# Altium schematic symbol library SparkFun-IC-Microcontroller.SCHLIB: 36 symbols
Pins are listed as number, name and electrical type; pins without a type are passive.

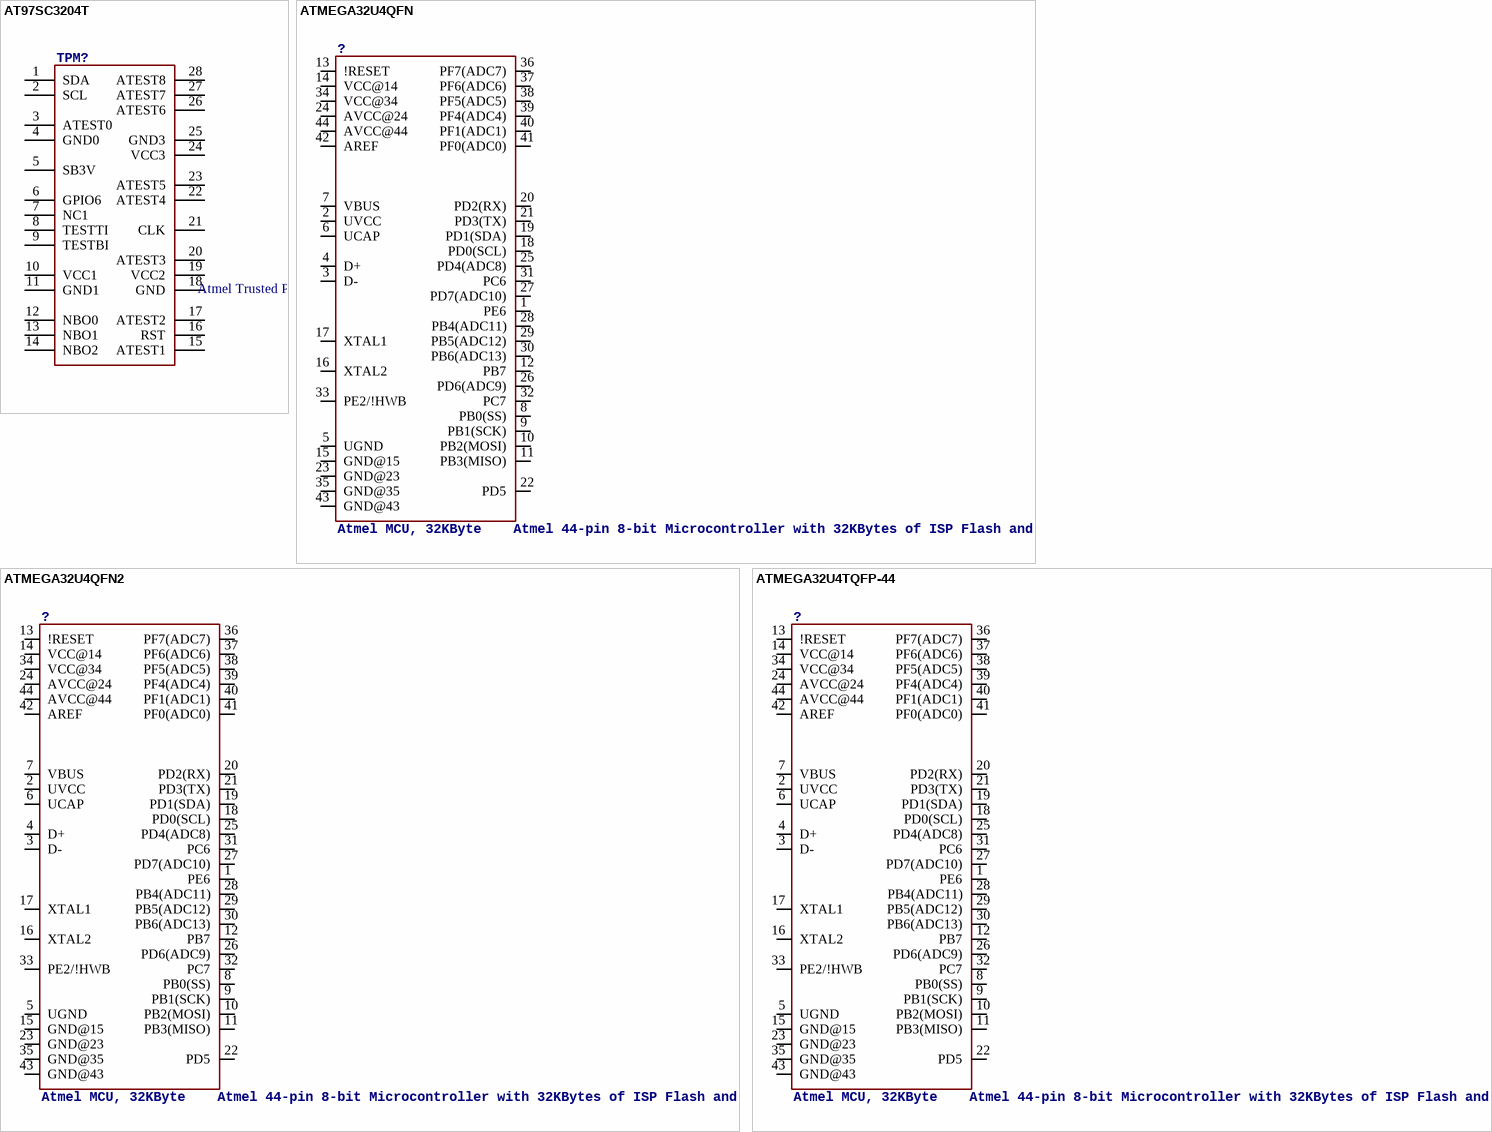
[diagram p0: symbols AT97SC3204T to ATMEGA32U4TQFP-44]

## AT97SC3204T
designator TPM?, comment Atmel Trusted Platform Module 1.2    Datasheet SparkFun Products  CryptoCape (DEV-12773)  SparkFun CryptoShield (DEV-13183)
PROD_ID: IC-11984
footprint TSSOP28
pins: 1 SDA, 2 SCL, 3 ATEST0 (power), 4 GND0 (power), 5 SB3V (power), 6 GPIO6, 7 NC1, 8 TESTTI (power), 9 TESTBI (power), 10 VCC1 (power), 11 GND1 (power), 12 NBO0, 13 NBO1, 14 NBO2, 15 ATEST1 (power), 16 RST, 17 ATEST2 (power), 18 GND (power), 19 VCC2 (power), 20 ATEST3 (power), 21 CLK, 22 ATEST4 (power), 23 ATEST5 (power), 24 VCC3 (power), 25 GND3 (power), 26 ATEST6 (power), 27 ATEST7 (power), 28 ATEST8 (power)

## ATMEGA32U4QFN
designator ?, comment Atmel MCU, 32KByte    Atmel 44-pin 8-bit Microcontroller with 32KBytes of ISP Flash and USB Controller   Datasheet SparkFun Products  LilyPad Arduino USB - ATmega32U4 Board (DEV-12049)  Pro Micro - 5V/16MHz (DEV-12640)  Pro Micro - 3.3V/8MHz (DEV-12587)  Fio v3 - ATmega32U4 (DEV-11520)  Qduino Mini (DEV-13614)  Makey Makey - Standard Kit (WIG-11511)  Makey Makey Deluxe Kit (WIG-11519)
PROD_ID: IC-10828
footprint QFN-44
pins: 1 PE6, 2 UVCC, 3 D-, 4 D+, 5 UGND, 6 UCAP, 7 VBUS, 8 PB0(SS), 9 PB1(SCK), 10 PB2(MOSI), 11 PB3(MISO), 12 PB7, 13 !RESET, 14 VCC@14, 15 GND@15, 16 XTAL2, 17 XTAL1, 18 PD0(SCL), 19 PD1(SDA), 20 PD2(RX), 21 PD3(TX), 22 PD5, 23 GND@23, 24 AVCC@24, 25 PD4(ADC8), 26 PD6(ADC9), 27 PD7(ADC10), 28 PB4(ADC11), 29 PB5(ADC12), 30 PB6(ADC13), 31 PC6, 32 PC7, 33 PE2/!HWB, 34 VCC@34, 35 GND@35, 36 PF7(ADC7), 37 PF6(ADC6), 38 PF5(ADC5), 39 PF4(ADC4), 40 PF1(ADC1), 41 PF0(ADC0), 42 AREF, 43 GND@43, 44 AVCC@44

## ATMEGA32U4QFN2
designator ?, comment Atmel MCU, 32KByte    Atmel 44-pin 8-bit Microcontroller with 32KBytes of ISP Flash and USB Controller   Datasheet SparkFun Products  LilyPad Arduino USB - ATmega32U4 Board (DEV-12049)  Pro Micro - 5V/16MHz (DEV-12640)  Pro Micro - 3.3V/8MHz (DEV-12587)  Fio v3 - ATmega32U4 (DEV-11520)  Qduino Mini (DEV-13614)  Makey Makey - Standard Kit (WIG-11511)  Makey Makey Deluxe Kit (WIG-11519)
PROD_ID: IC-10828
footprint QFN-44-NOPAD
pins: 1 PE6, 2 UVCC, 3 D-, 4 D+, 5 UGND, 6 UCAP, 7 VBUS, 8 PB0(SS), 9 PB1(SCK), 10 PB2(MOSI), 11 PB3(MISO), 12 PB7, 13 !RESET, 14 VCC@14, 15 GND@15, 16 XTAL2, 17 XTAL1, 18 PD0(SCL), 19 PD1(SDA), 20 PD2(RX), 21 PD3(TX), 22 PD5, 23 GND@23, 24 AVCC@24, 25 PD4(ADC8), 26 PD6(ADC9), 27 PD7(ADC10), 28 PB4(ADC11), 29 PB5(ADC12), 30 PB6(ADC13), 31 PC6, 32 PC7, 33 PE2/!HWB, 34 VCC@34, 35 GND@35, 36 PF7(ADC7), 37 PF6(ADC6), 38 PF5(ADC5), 39 PF4(ADC4), 40 PF1(ADC1), 41 PF0(ADC0), 42 AREF, 43 GND@43, 44 AVCC@44

## ATMEGA32U4TQFP-44
designator ?, comment Atmel MCU, 32KByte    Atmel 44-pin 8-bit Microcontroller with 32KBytes of ISP Flash and USB Controller   Datasheet SparkFun Products  LilyPad Arduino USB - ATmega32U4 Board (DEV-12049)  Pro Micro - 5V/16MHz (DEV-12640)  Pro Micro - 3.3V/8MHz (DEV-12587)  Fio v3 - ATmega32U4 (DEV-11520)  Qduino Mini (DEV-13614)  Makey Makey - Standard Kit (WIG-11511)  Makey Makey Deluxe Kit (WIG-11519)
PROD_ID: IC-11161
footprint TQFP44
pins: 1 PE6, 2 UVCC, 3 D-, 4 D+, 5 UGND, 6 UCAP, 7 VBUS, 8 PB0(SS), 9 PB1(SCK), 10 PB2(MOSI), 11 PB3(MISO), 12 PB7, 13 !RESET, 14 VCC@14, 15 GND@15, 16 XTAL2, 17 XTAL1, 18 PD0(SCL), 19 PD1(SDA), 20 PD2(RX), 21 PD3(TX), 22 PD5, 23 GND@23, 24 AVCC@24, 25 PD4(ADC8), 26 PD6(ADC9), 27 PD7(ADC10), 28 PB4(ADC11), 29 PB5(ADC12), 30 PB6(ADC13), 31 PC6, 32 PC7, 33 PE2/!HWB, 34 VCC@34, 35 GND@35, 36 PF7(ADC7), 37 PF6(ADC6), 38 PF5(ADC5), 39 PF4(ADC4), 40 PF1(ADC1), 41 PF0(ADC0), 42 AREF, 43 GND@43, 44 AVCC@44

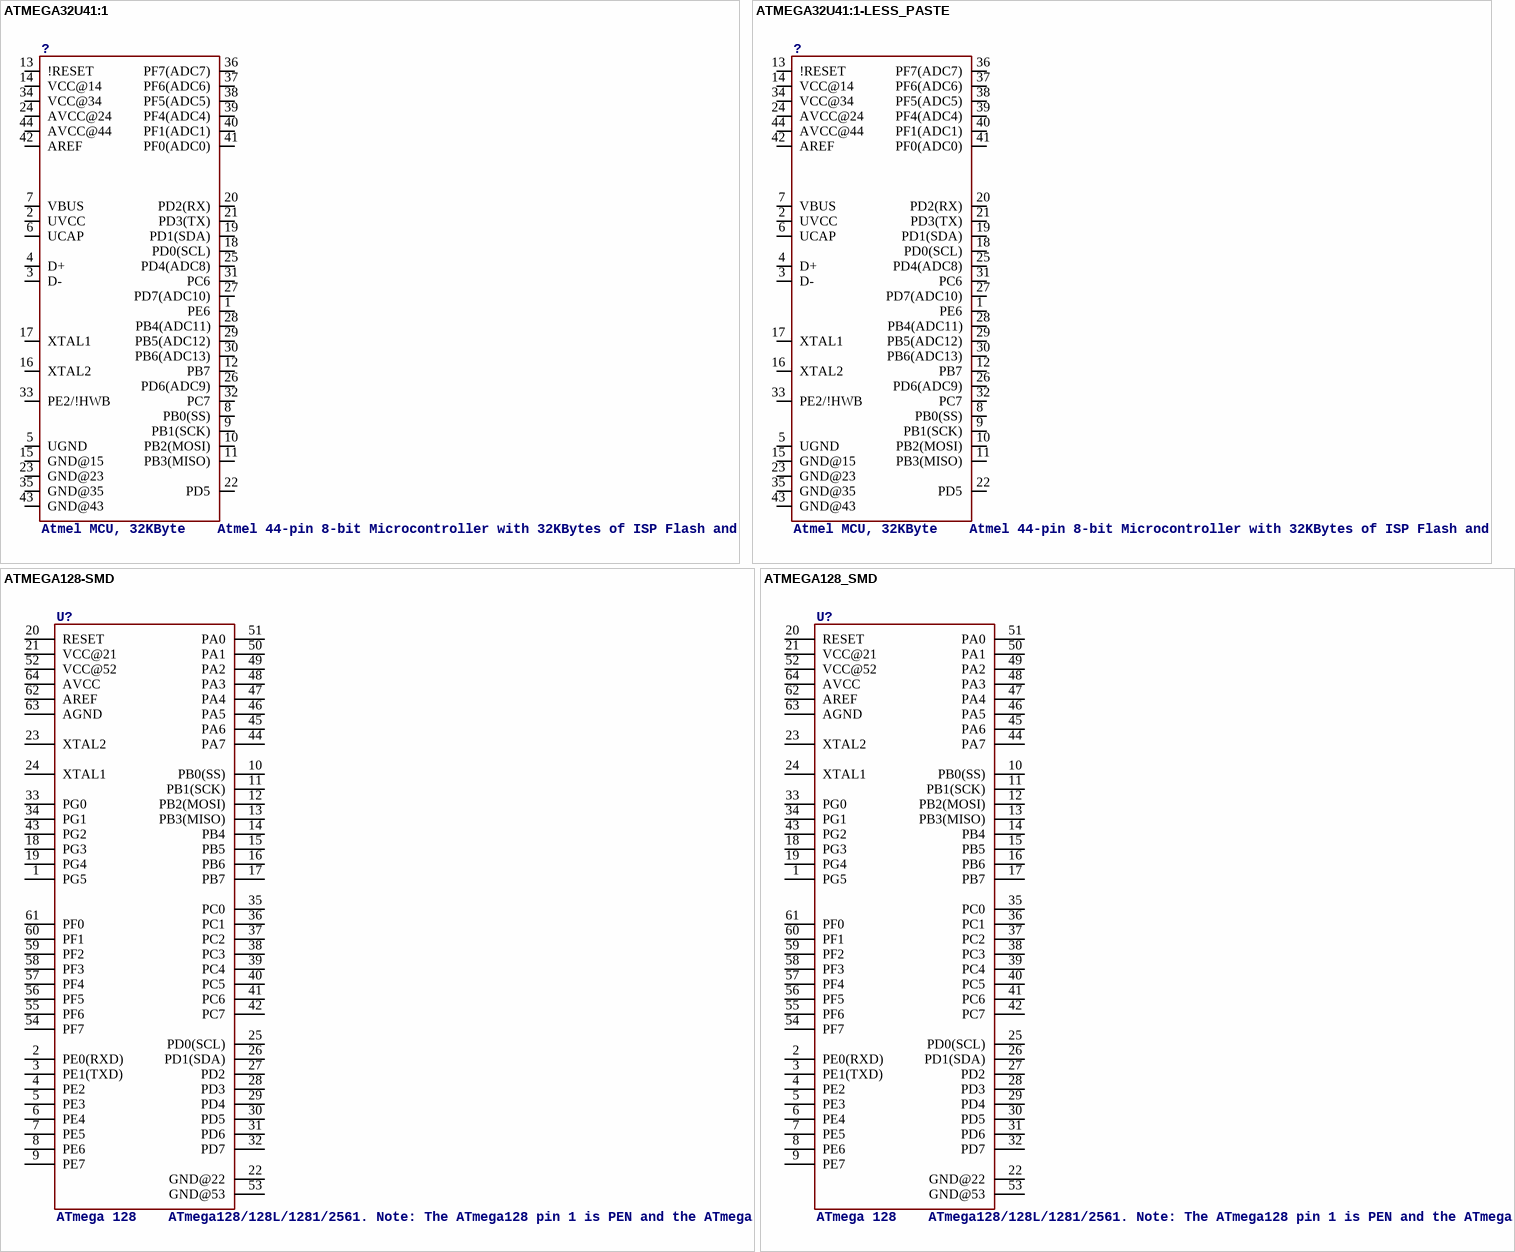
[diagram p1: symbols ATMEGA32U41:1 to ATMEGA128_SMD]

## ATMEGA32U41:1
designator ?, comment Atmel MCU, 32KByte    Atmel 44-pin 8-bit Microcontroller with 32KBytes of ISP Flash and USB Controller   Datasheet SparkFun Products  LilyPad Arduino USB - ATmega32U4 Board (DEV-12049)  Pro Micro - 5V/16MHz (DEV-12640)  Pro Micro - 3.3V/8MHz (DEV-12587)  Fio v3 - ATmega32U4 (DEV-11520)  Qduino Mini (DEV-13614)  Makey Makey - Standard Kit (WIG-11511)  Makey Makey Deluxe Kit (WIG-11519)
PROD_ID: IC-10828
footprint QFN-44-NOPAD_1:1
pins: 1 PE6, 2 UVCC, 3 D-, 4 D+, 5 UGND, 6 UCAP, 7 VBUS, 8 PB0(SS), 9 PB1(SCK), 10 PB2(MOSI), 11 PB3(MISO), 12 PB7, 13 !RESET, 14 VCC@14, 15 GND@15, 16 XTAL2, 17 XTAL1, 18 PD0(SCL), 19 PD1(SDA), 20 PD2(RX), 21 PD3(TX), 22 PD5, 23 GND@23, 24 AVCC@24, 25 PD4(ADC8), 26 PD6(ADC9), 27 PD7(ADC10), 28 PB4(ADC11), 29 PB5(ADC12), 30 PB6(ADC13), 31 PC6, 32 PC7, 33 PE2/!HWB, 34 VCC@34, 35 GND@35, 36 PF7(ADC7), 37 PF6(ADC6), 38 PF5(ADC5), 39 PF4(ADC4), 40 PF1(ADC1), 41 PF0(ADC0), 42 AREF, 43 GND@43, 44 AVCC@44

## ATMEGA32U41:1-LESS_PASTE
designator ?, comment Atmel MCU, 32KByte    Atmel 44-pin 8-bit Microcontroller with 32KBytes of ISP Flash and USB Controller   Datasheet SparkFun Products  LilyPad Arduino USB - ATmega32U4 Board (DEV-12049)  Pro Micro - 5V/16MHz (DEV-12640)  Pro Micro - 3.3V/8MHz (DEV-12587)  Fio v3 - ATmega32U4 (DEV-11520)  Qduino Mini (DEV-13614)  Makey Makey - Standard Kit (WIG-11511)  Makey Makey Deluxe Kit (WIG-11519)
PROD_ID: IC-10828
footprint QFN-44-NOPAD_1:1-LESS_PASTE
pins: 1 PE6, 2 UVCC, 3 D-, 4 D+, 5 UGND, 6 UCAP, 7 VBUS, 8 PB0(SS), 9 PB1(SCK), 10 PB2(MOSI), 11 PB3(MISO), 12 PB7, 13 !RESET, 14 VCC@14, 15 GND@15, 16 XTAL2, 17 XTAL1, 18 PD0(SCL), 19 PD1(SDA), 20 PD2(RX), 21 PD3(TX), 22 PD5, 23 GND@23, 24 AVCC@24, 25 PD4(ADC8), 26 PD6(ADC9), 27 PD7(ADC10), 28 PB4(ADC11), 29 PB5(ADC12), 30 PB6(ADC13), 31 PC6, 32 PC7, 33 PE2/!HWB, 34 VCC@34, 35 GND@35, 36 PF7(ADC7), 37 PF6(ADC6), 38 PF5(ADC5), 39 PF4(ADC4), 40 PF1(ADC1), 41 PF0(ADC0), 42 AREF, 43 GND@43, 44 AVCC@44

## ATMEGA128-SMD
designator U?, comment ATmega 128    ATmega128/128L/1281/2561. Note: The ATmega128 pin 1 is PEN and the ATmega256/1281 pin 1 is PG5.   Not in catalog
footprint TQFP64_14X14MM
pins: 1 PG5, 2 PE0(RXD), 3 PE1(TXD), 4 PE2, 5 PE3, 6 PE4, 7 PE5, 8 PE6, 9 PE7, 10 PB0(SS), 11 PB1(SCK), 12 PB2(MOSI), 13 PB3(MISO), 14 PB4, 15 PB5, 16 PB6, 17 PB7, 18 PG3, 19 PG4, 20 RESET, 21 VCC@21, 22 GND@22, 23 XTAL2, 24 XTAL1, 25 PD0(SCL), 26 PD1(SDA), 27 PD2, 28 PD3, 29 PD4, 30 PD5, 31 PD6, 32 PD7, 33 PG0, 34 PG1, 35 PC0, 36 PC1, 37 PC2, 38 PC3, 39 PC4, 40 PC5, 41 PC6, 42 PC7, 43 PG2, 44 PA7, 45 PA6, 46 PA5, 47 PA4, 48 PA3, 49 PA2, 50 PA1, 51 PA0, 52 VCC@52, 53 GND@53, 54 PF7, 55 PF6, 56 PF5, 57 PF4, 58 PF3, 59 PF2, 60 PF1, 61 PF0, 62 AREF, 63 AGND, 64 AVCC

## ATMEGA128_SMD
designator U?, comment ATmega 128    ATmega128/128L/1281/2561. Note: The ATmega128 pin 1 is PEN and the ATmega256/1281 pin 1 is PG5.   Not in catalog
footprint TQFP64
pins: 1 PG5, 2 PE0(RXD), 3 PE1(TXD), 4 PE2, 5 PE3, 6 PE4, 7 PE5, 8 PE6, 9 PE7, 10 PB0(SS), 11 PB1(SCK), 12 PB2(MOSI), 13 PB3(MISO), 14 PB4, 15 PB5, 16 PB6, 17 PB7, 18 PG3, 19 PG4, 20 RESET, 21 VCC@21, 22 GND@22, 23 XTAL2, 24 XTAL1, 25 PD0(SCL), 26 PD1(SDA), 27 PD2, 28 PD3, 29 PD4, 30 PD5, 31 PD6, 32 PD7, 33 PG0, 34 PG1, 35 PC0, 36 PC1, 37 PC2, 38 PC3, 39 PC4, 40 PC5, 41 PC6, 42 PC7, 43 PG2, 44 PA7, 45 PA6, 46 PA5, 47 PA4, 48 PA3, 49 PA2, 50 PA1, 51 PA0, 52 VCC@52, 53 GND@53, 54 PF7, 55 PF6, 56 PF5, 57 PF4, 58 PF3, 59 PF2, 60 PF1, 61 PF0, 62 AREF, 63 AGND, 64 AVCC

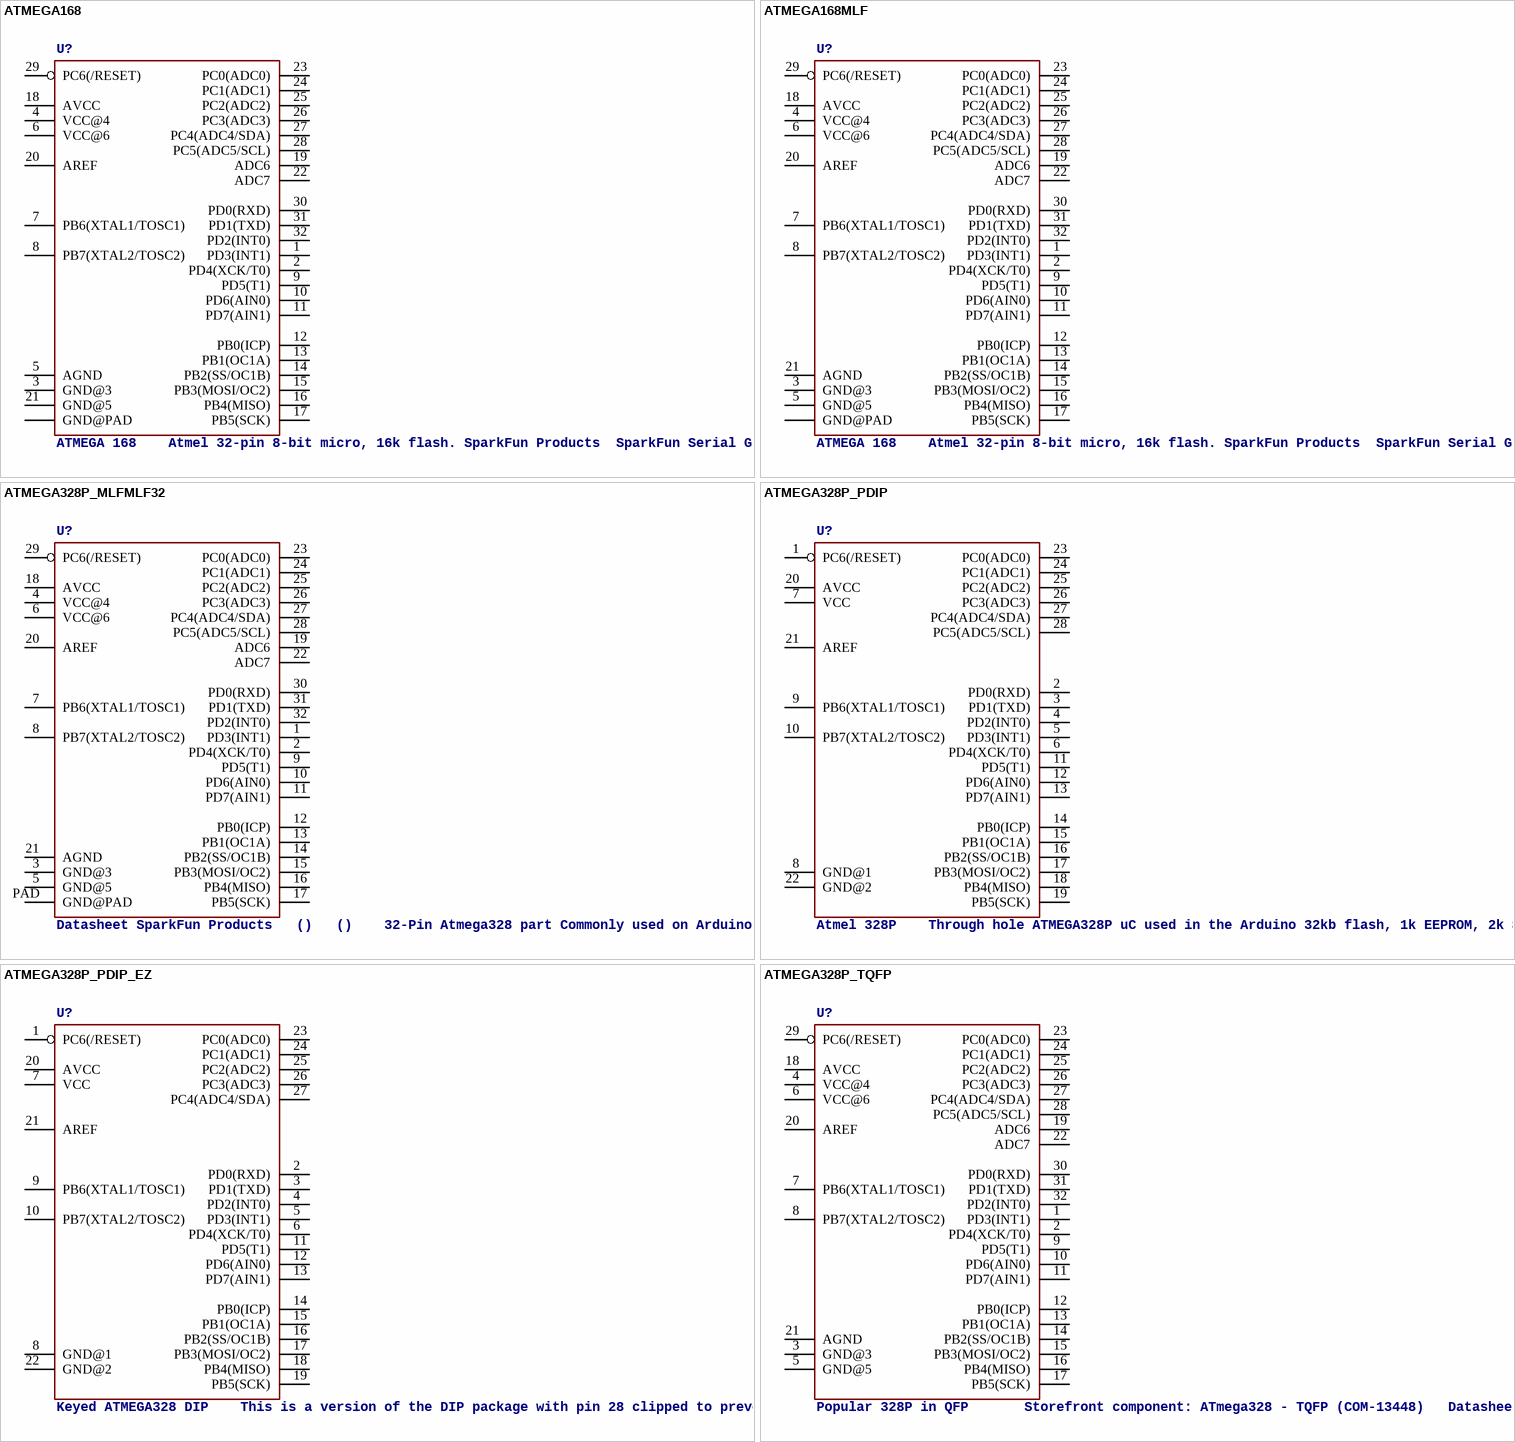
[diagram p2: symbols ATMEGA168 to ATMEGA328P_TQFP]

## ATMEGA168
designator U?, comment ATMEGA 168    Atmel 32-pin 8-bit micro, 16k flash. SparkFun Products  SparkFun Serial Graphic LCD 128x64 (LCD-09351)  SparkFun Graphic LCD Serial Backpack (LCD-09352)  SparkFun Serial Graphic LCD 160x128 (LCD-08884)
PROD_ID: IC-08594
footprint TQFP32-08
pins: 1 PD3(INT1), 2 PD4(XCK/T0), 3 GND@3, 4 VCC@4, 5 AGND, 6 VCC@6, 7 PB6(XTAL1/TOSC1), 8 PB7(XTAL2/TOSC2), 9 PD5(T1), 10 PD6(AIN0), 11 PD7(AIN1), 12 PB0(ICP), 13 PB1(OC1A), 14 PB2(SS/OC1B), 15 PB3(MOSI/OC2), 16 PB4(MISO), 17 PB5(SCK), 18 AVCC, 19 ADC6, 20 AREF, 21 GND@5, 22 ADC7, 23 PC0(ADC0), 24 PC1(ADC1), 25 PC2(ADC2), 26 PC3(ADC3), 27 PC4(ADC4/SDA), 28 PC5(ADC5/SCL), 29 PC6(/RESET), 30 PD0(RXD), 31 PD1(TXD), 32 PD2(INT0), ?1 GND@PAD

## ATMEGA168MLF
designator U?, comment ATMEGA 168    Atmel 32-pin 8-bit micro, 16k flash. SparkFun Products  SparkFun Serial Graphic LCD 128x64 (LCD-09351)  SparkFun Graphic LCD Serial Backpack (LCD-09352)  SparkFun Serial Graphic LCD 160x128 (LCD-08884)
PROD_ID: NA-XXXXX
footprint MLF32
pins: 1 PD3(INT1), 2 PD4(XCK/T0), 3 GND@3, 4 VCC@4, 5 GND@5, 6 VCC@6, 7 PB6(XTAL1/TOSC1), 8 PB7(XTAL2/TOSC2), 9 PD5(T1), 10 PD6(AIN0), 11 PD7(AIN1), 12 PB0(ICP), 13 PB1(OC1A), 14 PB2(SS/OC1B), 15 PB3(MOSI/OC2), 16 PB4(MISO), 17 PB5(SCK), 18 AVCC, 19 ADC6, 20 AREF, 21 AGND, 22 ADC7, 23 PC0(ADC0), 24 PC1(ADC1), 25 PC2(ADC2), 26 PC3(ADC3), 27 PC4(ADC4/SDA), 28 PC5(ADC5/SCL), 29 PC6(/RESET), 30 PD0(RXD), 31 PD1(TXD), 32 PD2(INT0), ?1 GND@PAD

## ATMEGA328P_MLFMLF32
designator U?, comment Datasheet SparkFun Products   ()   ()    32-Pin Atmega328 part Commonly used on Arduino compatible boards Available in QFP and QFN packages TQFP is IC-09069 QFN is non-stock
footprint MLF32-PAD
pins: 1 PD3(INT1), 2 PD4(XCK/T0), 3 GND@3, 4 VCC@4, 5 GND@5, 6 VCC@6, 7 PB6(XTAL1/TOSC1), 8 PB7(XTAL2/TOSC2), 9 PD5(T1), 10 PD6(AIN0), 11 PD7(AIN1), 12 PB0(ICP), 13 PB1(OC1A), 14 PB2(SS/OC1B), 15 PB3(MOSI/OC2), 16 PB4(MISO), 17 PB5(SCK), 18 AVCC, 19 ADC6, 20 AREF, 21 AGND, 22 ADC7, 23 PC0(ADC0), 24 PC1(ADC1), 25 PC2(ADC2), 26 PC3(ADC3), 27 PC4(ADC4/SDA), 28 PC5(ADC5/SCL), 29 PC6(/RESET), 30 PD0(RXD), 31 PD1(TXD), 32 PD2(INT0), PAD GND@PAD

## ATMEGA328P_PDIP
designator U?, comment Atmel 328P    Through hole ATMEGA328P uC used in the Arduino 32kb flash, 1k EEPROM, 2k SRAM   Datasheet SparkFun Products  Storefront component: AVR 28 Pin 20MHz 32K 6A/D - ATMega328P (COM-09061)  SparkFun Simon Says - Through-Hole Soldering Kit (KIT-10547)  SparkFun Learn to Solder - Simon Says (KIT-13708)  SparkFun BigTime Watch Kit (KIT-11734)  SparkFun ClockIt (KIT-10930)  SparkFun Serial Enabled LCD Kit (LCD-10097)  SparkFun Simon Tilts - Through Hole Soldering Kit (KIT-12634)  SparkFun Frequency Counter Kit (KIT-10140)  FabFM Radio Kit (KIT-11043)  SparkFun Binary Blaster Kit (KIT-12037)  SparkFun Metro-Gnome (KIT-09236)  ATmega328 with Arduino Optiboot (Uno) (DEV-10524)
PROD_ID: IC-09136
footprint DIP28
pins: 1 PC6(/RESET), 2 PD0(RXD), 3 PD1(TXD), 4 PD2(INT0), 5 PD3(INT1), 6 PD4(XCK/T0), 7 VCC, 8 GND@1, 9 PB6(XTAL1/TOSC1), 10 PB7(XTAL2/TOSC2), 11 PD5(T1), 12 PD6(AIN0), 13 PD7(AIN1), 14 PB0(ICP), 15 PB1(OC1A), 16 PB2(SS/OC1B), 17 PB3(MOSI/OC2), 18 PB4(MISO), 19 PB5(SCK), 20 AVCC, 21 AREF, 22 GND@2, 23 PC0(ADC0), 24 PC1(ADC1), 25 PC2(ADC2), 26 PC3(ADC3), 27 PC4(ADC4/SDA), 28 PC5(ADC5/SCL)

## ATMEGA328P_PDIP_EZ
designator U?, comment Keyed ATMEGA328 DIP    This is a version of the DIP package with pin 28 clipped to prevent reverse insertion. See regular 328 for product references.
footprint DIP28-SIMON-KIT
pins: 1 PC6(/RESET), 2 PD0(RXD), 3 PD1(TXD), 4 PD2(INT0), 5 PD3(INT1), 6 PD4(XCK/T0), 7 VCC, 8 GND@1, 9 PB6(XTAL1/TOSC1), 10 PB7(XTAL2/TOSC2), 11 PD5(T1), 12 PD6(AIN0), 13 PD7(AIN1), 14 PB0(ICP), 15 PB1(OC1A), 16 PB2(SS/OC1B), 17 PB3(MOSI/OC2), 18 PB4(MISO), 19 PB5(SCK), 20 AVCC, 21 AREF, 22 GND@2, 23 PC0(ADC0), 24 PC1(ADC1), 25 PC2(ADC2), 26 PC3(ADC3), 27 PC4(ADC4/SDA)

## ATMEGA328P_TQFP
designator U?, comment Popular 328P in QFP       Storefront component: ATmega328 - TQFP (COM-13448)   Datasheet SparkFun Products  SparkFun RedBoard - Programmed with Arduino (DEV-12757)  Arduino Pro Mini 328 - 5V/16MHz (DEV-11113)  Arduino Pro Mini 328 - 3.3V/8MHz (DEV-11114)  SparkFun OpenLog (DEV-13712)  SparkFun MicroView - OLED Arduino Module (DEV-12923)  SparkFun Digital Sandbox (DEV-12651)  SparkFun PicoBoard (WIG-11888)  Arduino Fio (DEV-10116)  LilyPad Arduino 328 Main Board (DEV-13342)  SparkFun RedStick (DEV-13741)  LilyPad MP3 (DEV-11013)  LilyPad Arduino SimpleSnap (DEV-10941)  SparkFun Stepoko (ROB-13899)  SparkFun Geiger Counter (SEN-11345)  SparkFun EL Sequencer (COM-12781)  Arduino Pro 328 - 5V/16MHz (DEV-10915)  CryptoCape (DEV-12773)  SparkFun IR Thermometer Evaluation Board - MLX90614 (SEN-10740)  SparkFun RedBot Mainboard (ROB-12097)  Arduino Pro 328 - 3.3V/8MHz (DEV-10914)  SparkFun Block for Intel® Edison - Arduino (DEV-13036)  SparkFun Simon Says - Surface Mount Soldering Kit (KIT-10935)  SparkFun 7-Segment Serial Display - Red (COM-11441)  SparkFun 7-Segment Serial Display - White (COM-11629)  SparkFun 7-Segment Serial Display - Yellow (COM-11443)  SparkFun 7-Segment Serial Display - Kelly Green (COM-11440)  SparkFun 7-Segment Serial Display - Blue (COM-11442)  SparkFun OpenSegment Serial Display - 20mm (Blue) (COM-11647)  SparkFun OpenSegment Serial Display - 20mm (Green) (COM-11646)  SparkFun OpenSegment Serial Display - 20mm (White) (COM-11648)  SparkFun OpenSegment Serial Display - 20mm (Red) (COM-11644)  SparkFun OpenSegment Serial Display - 20mm (Yellow) (COM-11645)  SparkFun OpenSegment Shield (DEV-13190)
PROD_ID: IC-09069
footprint TQFP32-08
pins: 1 PD3(INT1), 2 PD4(XCK/T0), 3 GND@3, 4 VCC@4, 5 GND@5, 6 VCC@6, 7 PB6(XTAL1/TOSC1), 8 PB7(XTAL2/TOSC2), 9 PD5(T1), 10 PD6(AIN0), 11 PD7(AIN1), 12 PB0(ICP), 13 PB1(OC1A), 14 PB2(SS/OC1B), 15 PB3(MOSI/OC2), 16 PB4(MISO), 17 PB5(SCK), 18 AVCC, 19 ADC6, 20 AREF, 21 AGND, 22 ADC7, 23 PC0(ADC0), 24 PC1(ADC1), 25 PC2(ADC2), 26 PC3(ADC3), 27 PC4(ADC4/SDA), 28 PC5(ADC5/SCL), 29 PC6(/RESET), 30 PD0(RXD), 31 PD1(TXD), 32 PD2(INT0)

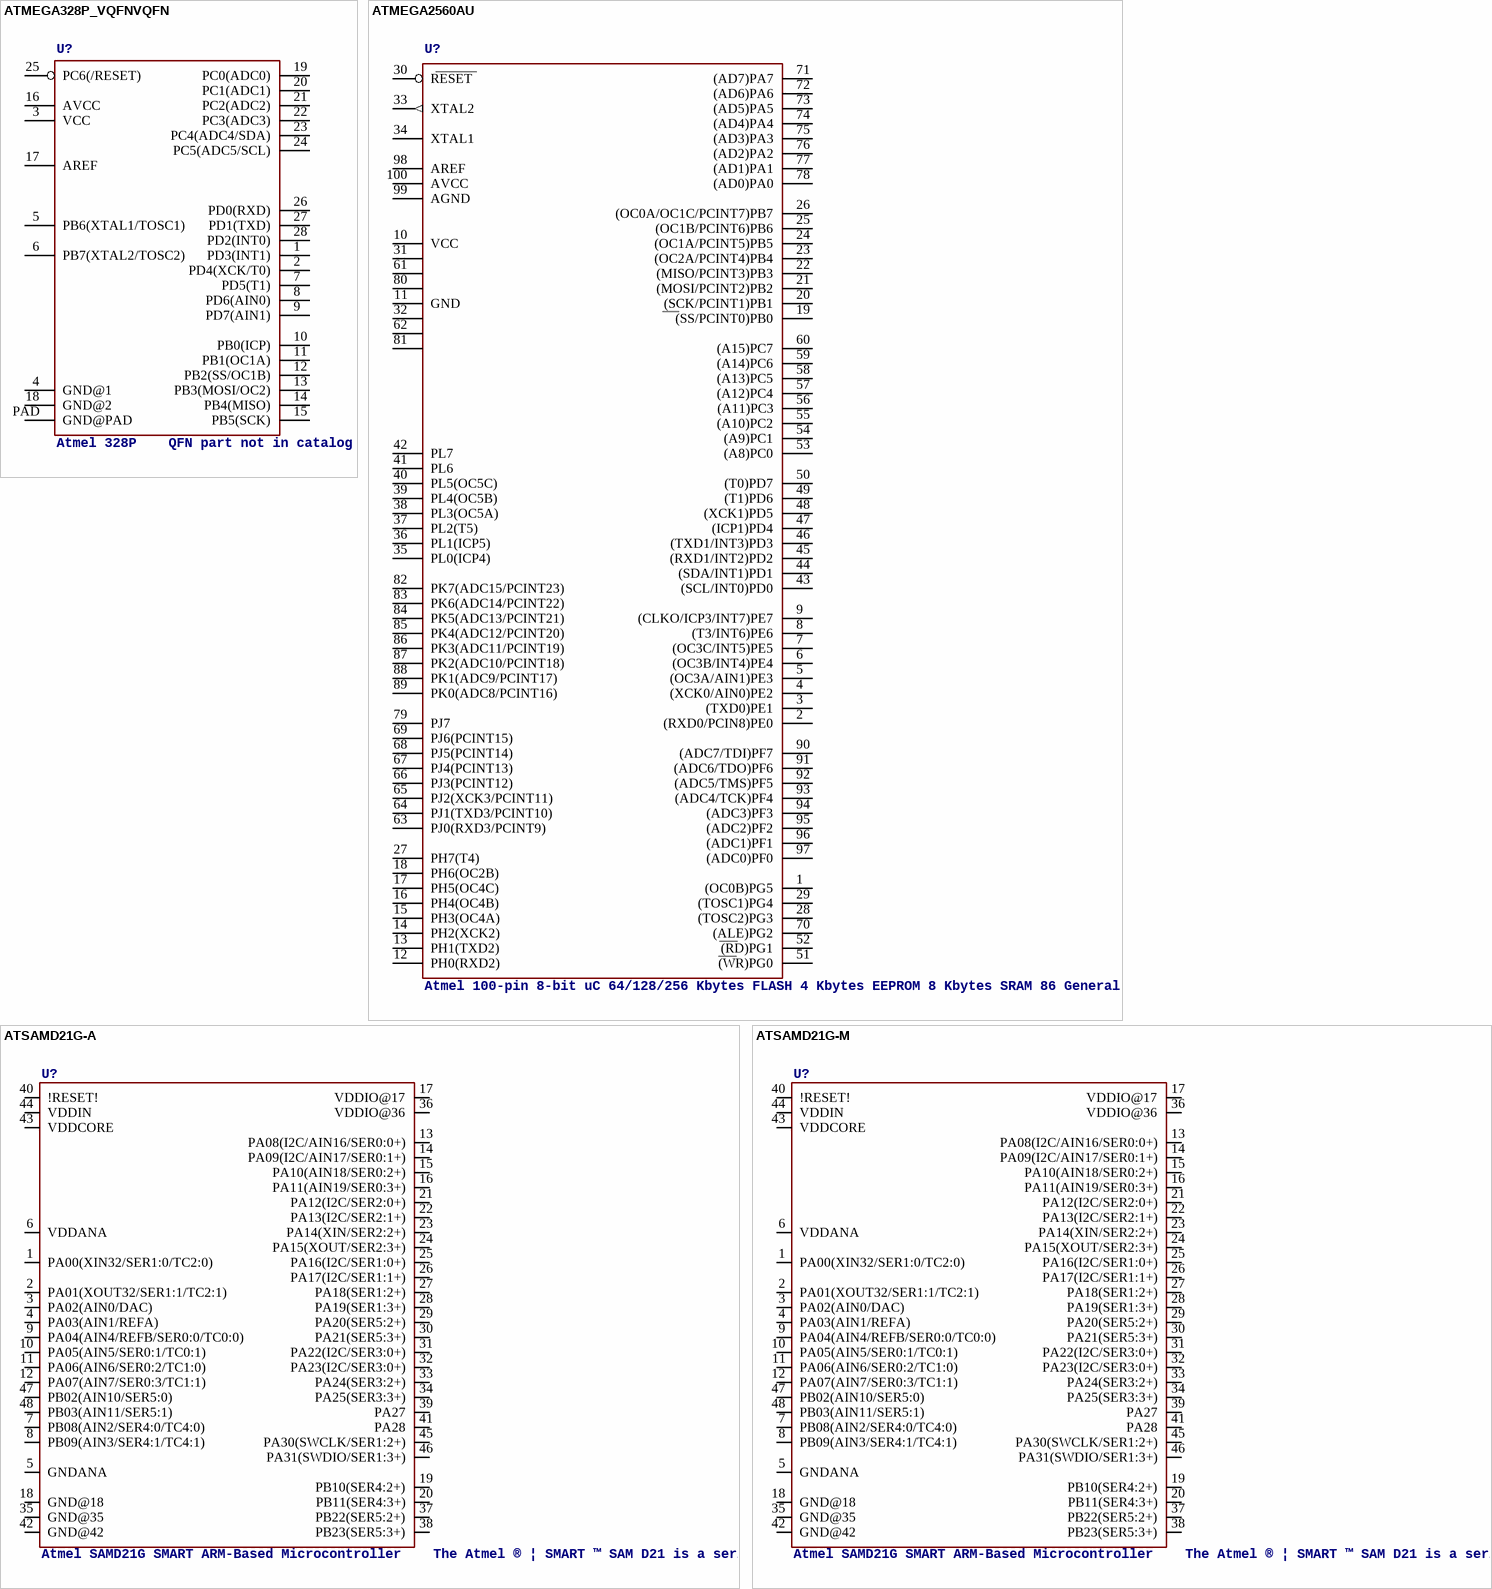
[diagram p3: symbols ATMEGA328P_VQFNVQFN to ATSAMD21G-M]

## ATMEGA328P_VQFNVQFN
designator U?, comment Atmel 328P    QFN part not in catalog
footprint VQFN-28
pins: 1 PD3(INT1), 2 PD4(XCK/T0), 3 VCC, 4 GND@1, 5 PB6(XTAL1/TOSC1), 6 PB7(XTAL2/TOSC2), 7 PD5(T1), 8 PD6(AIN0), 9 PD7(AIN1), 10 PB0(ICP), 11 PB1(OC1A), 12 PB2(SS/OC1B), 13 PB3(MOSI/OC2), 14 PB4(MISO), 15 PB5(SCK), 16 AVCC, 17 AREF, 18 GND@2, 19 PC0(ADC0), 20 PC1(ADC1), 21 PC2(ADC2), 22 PC3(ADC3), 23 PC4(ADC4/SDA), 24 PC5(ADC5/SCL), 25 PC6(/RESET), 26 PD0(RXD), 27 PD1(TXD), 28 PD2(INT0), PAD GND@PAD

## ATMEGA2560AU
designator U?, comment Atmel 100-pin 8-bit uC 64/128/256 Kbytes FLASH 4 Kbytes EEPROM 8 Kbytes SRAM 86 General Purpose I/O pins 12-channels16-bit PWM 4 x Serial USARTs 16-channels 10-bit A/D  SparkFun Products  None.
PROD_ID: IC-10040
footprint TQFP100
pins: 1 (OC0B)PG5, 2 (RXD0/PCIN8)PE0, 3 (TXD0)PE1, 4 (XCK0/AIN0)PE2, 5 (OC3A/AIN1)PE3, 6 (OC3B/INT4)PE4, 7 (OC3C/INT5)PE5, 8 (T3/INT6)PE6, 9 (CLKO/ICP3/INT7)PE7, 10 VCC (power), 11 GND (power), 12 PH0(RXD2), 13 PH1(TXD2), 14 PH2(XCK2), 15 PH3(OC4A), 16 PH4(OC4B), 17 PH5(OC4C), 18 PH6(OC2B), 19 (SS/PCINT0)PB0, 20 (SCK/PCINT1)PB1, 21 (MOSI/PCINT2)PB2, 22 (MISO/PCINT3)PB3, 23 (OC2A/PCINT4)PB4, 24 (OC1A/PCINT5)PB5, 25 (OC1B/PCINT6)PB6, 26 (OC0A/OC1C/PCINT7)PB7, 27 PH7(T4), 28 (TOSC2)PG3, 29 (TOSC1)PG4, 30 RESET, 31 VCC1 (power), 32 GND1 (power), 33 XTAL2 (out), 34 XTAL1, 35 PL0(ICP4), 36 PL1(ICP5), 37 PL2(T5), 38 PL3(OC5A), 39 PL4(OC5B), 40 PL5(OC5C), 41 PL6, 42 PL7, 43 (SCL/INT0)PD0, 44 (SDA/INT1)PD1, 45 (RXD1/INT2)PD2, 46 (TXD1/INT3)PD3, 47 (ICP1)PD4, 48 (XCK1)PD5, 49 (T1)PD6, 50 (T0)PD7, 51 (WR)PG0, 52 (RD)PG1, 53 (A8)PC0, 54 (A9)PC1, 55 (A10)PC2, 56 (A11)PC3, 57 (A12)PC4, 58 (A13)PC5, 59 (A14)PC6, 60 (A15)PC7, 61 VCC2 (power), 62 GND2 (power), 63 PJ0(RXD3/PCINT9), 64 PJ1(TXD3/PCINT10), 65 PJ2(XCK3/PCINT11), 66 PJ3(PCINT12), 67 PJ4(PCINT13), 68 PJ5(PCINT14), 69 PJ6(PCINT15), 70 (ALE)PG2, 71 (AD7)PA7, 72 (AD6)PA6, 73 (AD5)PA5, 74 (AD4)PA4, 75 (AD3)PA3, 76 (AD2)PA2, 77 (AD1)PA1, 78 (AD0)PA0, 79 PJ7, 80 VCC3 (power), 81 GND3 (power), 82 PK7(ADC15/PCINT23), 83 PK6(ADC14/PCINT22), 84 PK5(ADC13/PCINT21), 85 PK4(ADC12/PCINT20), 86 PK3(ADC11/PCINT19), 87 PK2(ADC10/PCINT18), 88 PK1(ADC9/PCINT17), 89 PK0(ADC8/PCINT16), 90 (ADC7/TDI)PF7, 91 (ADC6/TDO)PF6, 92 (ADC5/TMS)PF5, 93 (ADC4/TCK)PF4, 94 (ADC3)PF3, 95 (ADC2)PF2, 96 (ADC1)PF1, 97 (ADC0)PF0, 98 AREF, 99 AGND (power), 100 AVCC (power)

## ATSAMD21G-A
designator U?, comment Atmel SAMD21G SMART ARM-Based Microcontroller    The Atmel ® | SMART ™ SAM D21 is a series of low-power microcontrollers using the 32-bit ARM ® Cortex ® -M0+ processor, and ranging from 32- to 64-pins with up to 256KB Flash and 32KB of SRAM. The SAM D21 devices operate at a maximum frequency of 48MHz and reach 2.46 CoreMark/MHz. They are designed for simple and intuitive migration with identical peripheral modules, hex compatible code, identical linear address map and pin compatible migration paths between all devices in the product series. All devices include intelligent and flexible peripherals, Atmel Event System for inter-peripheral signaling, and support for capacitive touch button, slider and wheel user interfaces.   Datasheet SparkFun Products  SparkFun SAMD21 Mini Breakout (DEV-13664)  SparkFun SAMD21 Dev Breakout (DEV-13672)
PROD_ID: IC-13064
footprint TQFP-48
pins: 1 PA00(XIN32/SER1:0/TC2:0), 2 PA01(XOUT32/SER1:1/TC2:1), 3 PA02(AIN0/DAC), 4 PA03(AIN1/REFA), 5 GNDANA, 6 VDDANA, 7 PB08(AIN2/SER4:0/TC4:0), 8 PB09(AIN3/SER4:1/TC4:1), 9 PA04(AIN4/REFB/SER0:0/TC0:0), 10 PA05(AIN5/SER0:1/TC0:1), 11 PA06(AIN6/SER0:2/TC1:0), 12 PA07(AIN7/SER0:3/TC1:1), 13 PA08(I2C/AIN16/SER0:0+), 14 PA09(I2C/AIN17/SER0:1+), 15 PA10(AIN18/SER0:2+), 16 PA11(AIN19/SER0:3+), 17 VDDIO@17, 18 GND@18, 19 PB10(SER4:2+), 20 PB11(SER4:3+), 21 PA12(I2C/SER2:0+), 22 PA13(I2C/SER2:1+), 23 PA14(XIN/SER2:2+), 24 PA15(XOUT/SER2:3+), 25 PA16(I2C/SER1:0+), 26 PA17(I2C/SER1:1+), 27 PA18(SER1:2+), 28 PA19(SER1:3+), 29 PA20(SER5:2+), 30 PA21(SER5:3+), 31 PA22(I2C/SER3:0+), 32 PA23(I2C/SER3:0+), 33 PA24(SER3:2+), 34 PA25(SER3:3+), 35 GND@35, 36 VDDIO@36, 37 PB22(SER5:2+), 38 PB23(SER5:3+), 39 PA27, 40 !RESET!, 41 PA28, 42 GND@42, 43 VDDCORE, 44 VDDIN, 45 PA30(SWCLK/SER1:2+), 46 PA31(SWDIO/SER1:3+), 47 PB02(AIN10/SER5:0), 48 PB03(AIN11/SER5:1)

## ATSAMD21G-M
designator U?, comment Atmel SAMD21G SMART ARM-Based Microcontroller    The Atmel ® | SMART ™ SAM D21 is a series of low-power microcontrollers using the 32-bit ARM ® Cortex ® -M0+ processor, and ranging from 32- to 64-pins with up to 256KB Flash and 32KB of SRAM. The SAM D21 devices operate at a maximum frequency of 48MHz and reach 2.46 CoreMark/MHz. They are designed for simple and intuitive migration with identical peripheral modules, hex compatible code, identical linear address map and pin compatible migration paths between all devices in the product series. All devices include intelligent and flexible peripherals, Atmel Event System for inter-peripheral signaling, and support for capacitive touch button, slider and wheel user interfaces.   Datasheet SparkFun Products  SparkFun SAMD21 Mini Breakout (DEV-13664)  SparkFun SAMD21 Dev Breakout (DEV-13672)
PROD_ID: IC-13064
footprint QFN-48
pins: 1 PA00(XIN32/SER1:0/TC2:0), 2 PA01(XOUT32/SER1:1/TC2:1), 3 PA02(AIN0/DAC), 4 PA03(AIN1/REFA), 5 GNDANA, 6 VDDANA, 7 PB08(AIN2/SER4:0/TC4:0), 8 PB09(AIN3/SER4:1/TC4:1), 9 PA04(AIN4/REFB/SER0:0/TC0:0), 10 PA05(AIN5/SER0:1/TC0:1), 11 PA06(AIN6/SER0:2/TC1:0), 12 PA07(AIN7/SER0:3/TC1:1), 13 PA08(I2C/AIN16/SER0:0+), 14 PA09(I2C/AIN17/SER0:1+), 15 PA10(AIN18/SER0:2+), 16 PA11(AIN19/SER0:3+), 17 VDDIO@17, 18 GND@18, 19 PB10(SER4:2+), 20 PB11(SER4:3+), 21 PA12(I2C/SER2:0+), 22 PA13(I2C/SER2:1+), 23 PA14(XIN/SER2:2+), 24 PA15(XOUT/SER2:3+), 25 PA16(I2C/SER1:0+), 26 PA17(I2C/SER1:1+), 27 PA18(SER1:2+), 28 PA19(SER1:3+), 29 PA20(SER5:2+), 30 PA21(SER5:3+), 31 PA22(I2C/SER3:0+), 32 PA23(I2C/SER3:0+), 33 PA24(SER3:2+), 34 PA25(SER3:3+), 35 GND@35, 36 VDDIO@36, 37 PB22(SER5:2+), 38 PB23(SER5:3+), 39 PA27, 40 !RESET!, 41 PA28, 42 GND@42, 43 VDDCORE, 44 VDDIN, 45 PA30(SWCLK/SER1:2+), 46 PA31(SWDIO/SER1:3+), 47 PB02(AIN10/SER5:0), 48 PB03(AIN11/SER5:1)

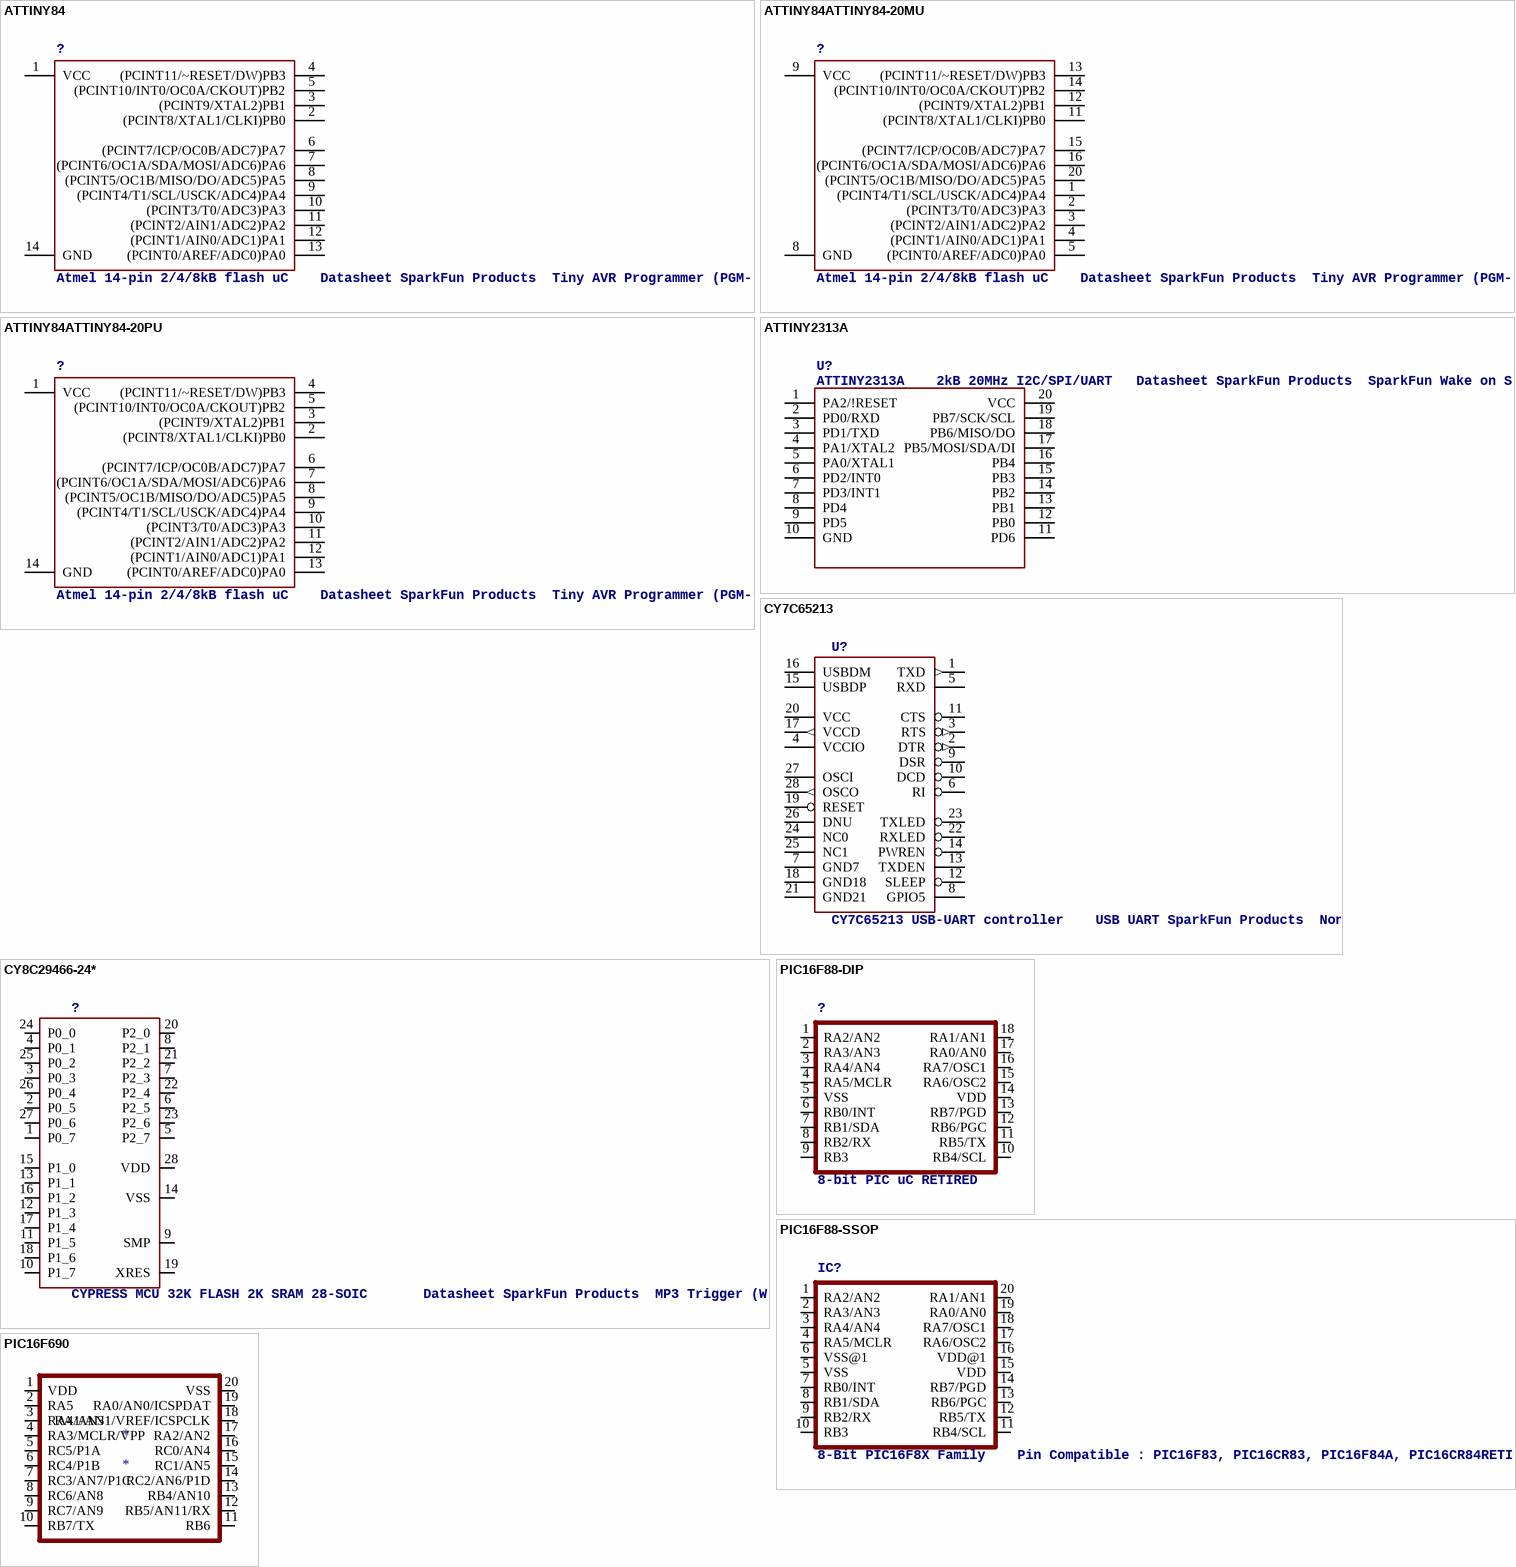
[diagram p4: symbols ATTINY84 to PIC16F690]

## ATTINY84
designator ?, comment Atmel 14-pin 2/4/8kB flash uC    Datasheet SparkFun Products  Tiny AVR Programmer (PGM-11801)  SparkFun Servo Trigger - Continuous Rotation (WIG-13872)  SparkFun Servo Trigger (WIG-13118)
PROD_ID: IC-11285
footprint SO14
pins: 1 VCC, 2 (PCINT8/XTAL1/CLKI)PB0, 3 (PCINT9/XTAL2)PB1, 4 (PCINT11/~RESET/DW)PB3, 5 (PCINT10/INT0/OC0A/CKOUT)PB2, 6 (PCINT7/ICP/OC0B/ADC7)PA7, 7 (PCINT6/OC1A/SDA/MOSI/ADC6)PA6, 8 (PCINT5/OC1B/MISO/DO/ADC5)PA5, 9 (PCINT4/T1/SCL/USCK/ADC4)PA4, 10 (PCINT3/T0/ADC3)PA3, 11 (PCINT2/AIN1/ADC2)PA2, 12 (PCINT1/AIN0/ADC1)PA1, 13 (PCINT0/AREF/ADC0)PA0, 14 GND

## ATTINY84ATTINY84-20MU
designator ?, comment Atmel 14-pin 2/4/8kB flash uC    Datasheet SparkFun Products  Tiny AVR Programmer (PGM-11801)  SparkFun Servo Trigger - Continuous Rotation (WIG-13872)  SparkFun Servo Trigger (WIG-13118)
footprint QFN20
pins: 1 (PCINT4/T1/SCL/USCK/ADC4)PA4, 2 (PCINT3/T0/ADC3)PA3, 3 (PCINT2/AIN1/ADC2)PA2, 4 (PCINT1/AIN0/ADC1)PA1, 5 (PCINT0/AREF/ADC0)PA0, 8 GND, 9 VCC, 11 (PCINT8/XTAL1/CLKI)PB0, 12 (PCINT9/XTAL2)PB1, 13 (PCINT11/~RESET/DW)PB3, 14 (PCINT10/INT0/OC0A/CKOUT)PB2, 15 (PCINT7/ICP/OC0B/ADC7)PA7, 16 (PCINT6/OC1A/SDA/MOSI/ADC6)PA6, 20 (PCINT5/OC1B/MISO/DO/ADC5)PA5

## ATTINY84ATTINY84-20PU
designator ?, comment Atmel 14-pin 2/4/8kB flash uC    Datasheet SparkFun Products  Tiny AVR Programmer (PGM-11801)  SparkFun Servo Trigger - Continuous Rotation (WIG-13872)  SparkFun Servo Trigger (WIG-13118)
footprint DIP14
pins: 1 VCC, 2 (PCINT8/XTAL1/CLKI)PB0, 3 (PCINT9/XTAL2)PB1, 4 (PCINT11/~RESET/DW)PB3, 5 (PCINT10/INT0/OC0A/CKOUT)PB2, 6 (PCINT7/ICP/OC0B/ADC7)PA7, 7 (PCINT6/OC1A/SDA/MOSI/ADC6)PA6, 8 (PCINT5/OC1B/MISO/DO/ADC5)PA5, 9 (PCINT4/T1/SCL/USCK/ADC4)PA4, 10 (PCINT3/T0/ADC3)PA3, 11 (PCINT2/AIN1/ADC2)PA2, 12 (PCINT1/AIN0/ADC1)PA1, 13 (PCINT0/AREF/ADC0)PA0, 14 GND

## ATTINY2313A
designator U?, comment ATTINY2313A    2kB 20MHz I2C/SPI/UART   Datasheet SparkFun Products  SparkFun Wake on Shake (SEN-11447)
PROD_ID: IC-11305
footprint SOP20W
pins: 1 PA2/!RESET, 2 PD0/RXD, 3 PD1/TXD, 4 PA1/XTAL2, 5 PA0/XTAL1, 6 PD2/INT0, 7 PD3/INT1, 8 PD4, 9 PD5, 10 GND, 11 PD6, 12 PB0, 13 PB1, 14 PB2, 15 PB3, 16 PB4, 17 PB5/MOSI/SDA/DI, 18 PB6/MISO/DO, 19 PB7/SCK/SCL, 20 VCC

## CY7C65213
designator U?, comment CY7C65213 USB-UART controller    USB UART SparkFun Products  None
PROD_ID: IC-12487
footprint SSOP28DB
pins: 1 TXD (out), 2 DTR (out), 3 RTS (out), 4 VCCIO (power), 5 RXD, 6 RI, 7 GND7 (power), 8 GPIO5, 9 DSR, 10 DCD, 11 CTS, 12 SLEEP, 13 TXDEN, 14 PWREN, 15 USBDP, 16 USBDM, 17 VCCD (out), 18 GND18 (power), 19 RESET, 20 VCC (power), 21 GND21 (power), 22 RXLED, 23 TXLED, 24 NC0, 25 NC1 (power), 26 DNU, 27 OSCI, 28 OSCO (out)

## CY8C29466-24*
designator ?, comment CYPRESS MCU 32K FLASH 2K SRAM 28-SOIC       Datasheet SparkFun Products  MP3 Trigger (WIG-13720)
PROD_ID: IC-08972
footprint SOIC-28
pins: 1 P0_7, 2 P0_5, 3 P0_3, 4 P0_1, 5 P2_7, 6 P2_5, 7 P2_3, 8 P2_1, 9 SMP, 10 P1_7, 11 P1_5, 12 P1_3, 13 P1_1, 14 VSS (power), 15 P1_0, 16 P1_2, 17 P1_4, 18 P1_6, 19 XRES, 20 P2_0, 21 P2_2, 22 P2_4, 23 P2_6, 24 P0_0, 25 P0_2, 26 P0_4, 27 P0_6, 28 VDD (power)

## PIC16F88-DIP
designator ?, comment 8-bit PIC uC RETIRED
PROD_ID: IC-08463
footprint DIP18
pins: 1 RA2/AN2, 2 RA3/AN3, 3 RA4/AN4, 4 RA5/MCLR, 5 VSS (power), 6 RB0/INT, 7 RB1/SDA, 8 RB2/RX, 9 RB3, 10 RB4/SCL, 11 RB5/TX, 12 RB6/PGC, 13 RB7/PGD, 14 VDD (power), 15 RA6/OSC2, 16 RA7/OSC1, 17 RA0/AN0, 18 RA1/AN1

## PIC16F88-SSOP
designator IC?, comment 8-Bit PIC16F8X Family    Pin Compatible : PIC16F83, PIC16CR83, PIC16F84A, PIC16CR84RETIRED
footprint SSOP20
pins: 1 RA2/AN2, 2 RA3/AN3, 3 RA4/AN4, 4 RA5/MCLR, 5 VSS (power), 6 VSS@1 (power), 7 RB0/INT, 8 RB1/SDA, 9 RB2/RX, 10 RB3, 11 RB4/SCL, 12 RB5/TX, 13 RB6/PGC, 14 RB7/PGD, 15 VDD (power), 16 VDD@1 (power), 17 RA6/OSC2, 18 RA7/OSC1, 19 RA0/AN0, 20 RA1/AN1

## PIC16F690
designator *
footprint SSOP20
pins: 1 VDD, 2 RA5, 3 RA4/AN3, 4 RA3/MCLR/VPP, 5 RC5/P1A (power), 6 RC4/P1B, 7 RC3/AN7/P1C, 8 RC6/AN8, 9 RC7/AN9, 10 RB7/TX, 11 RB6, 12 RB5/AN11/RX, 13 RB4/AN10, 14 RC2/AN6/P1D (power), 15 RC1/AN5, 16 RC0/AN4, 17 RA2/AN2, 18 RA1/AN1/VREF/ICSPCLK, 19 RA0/AN0/ICSPDAT, 20 VSS

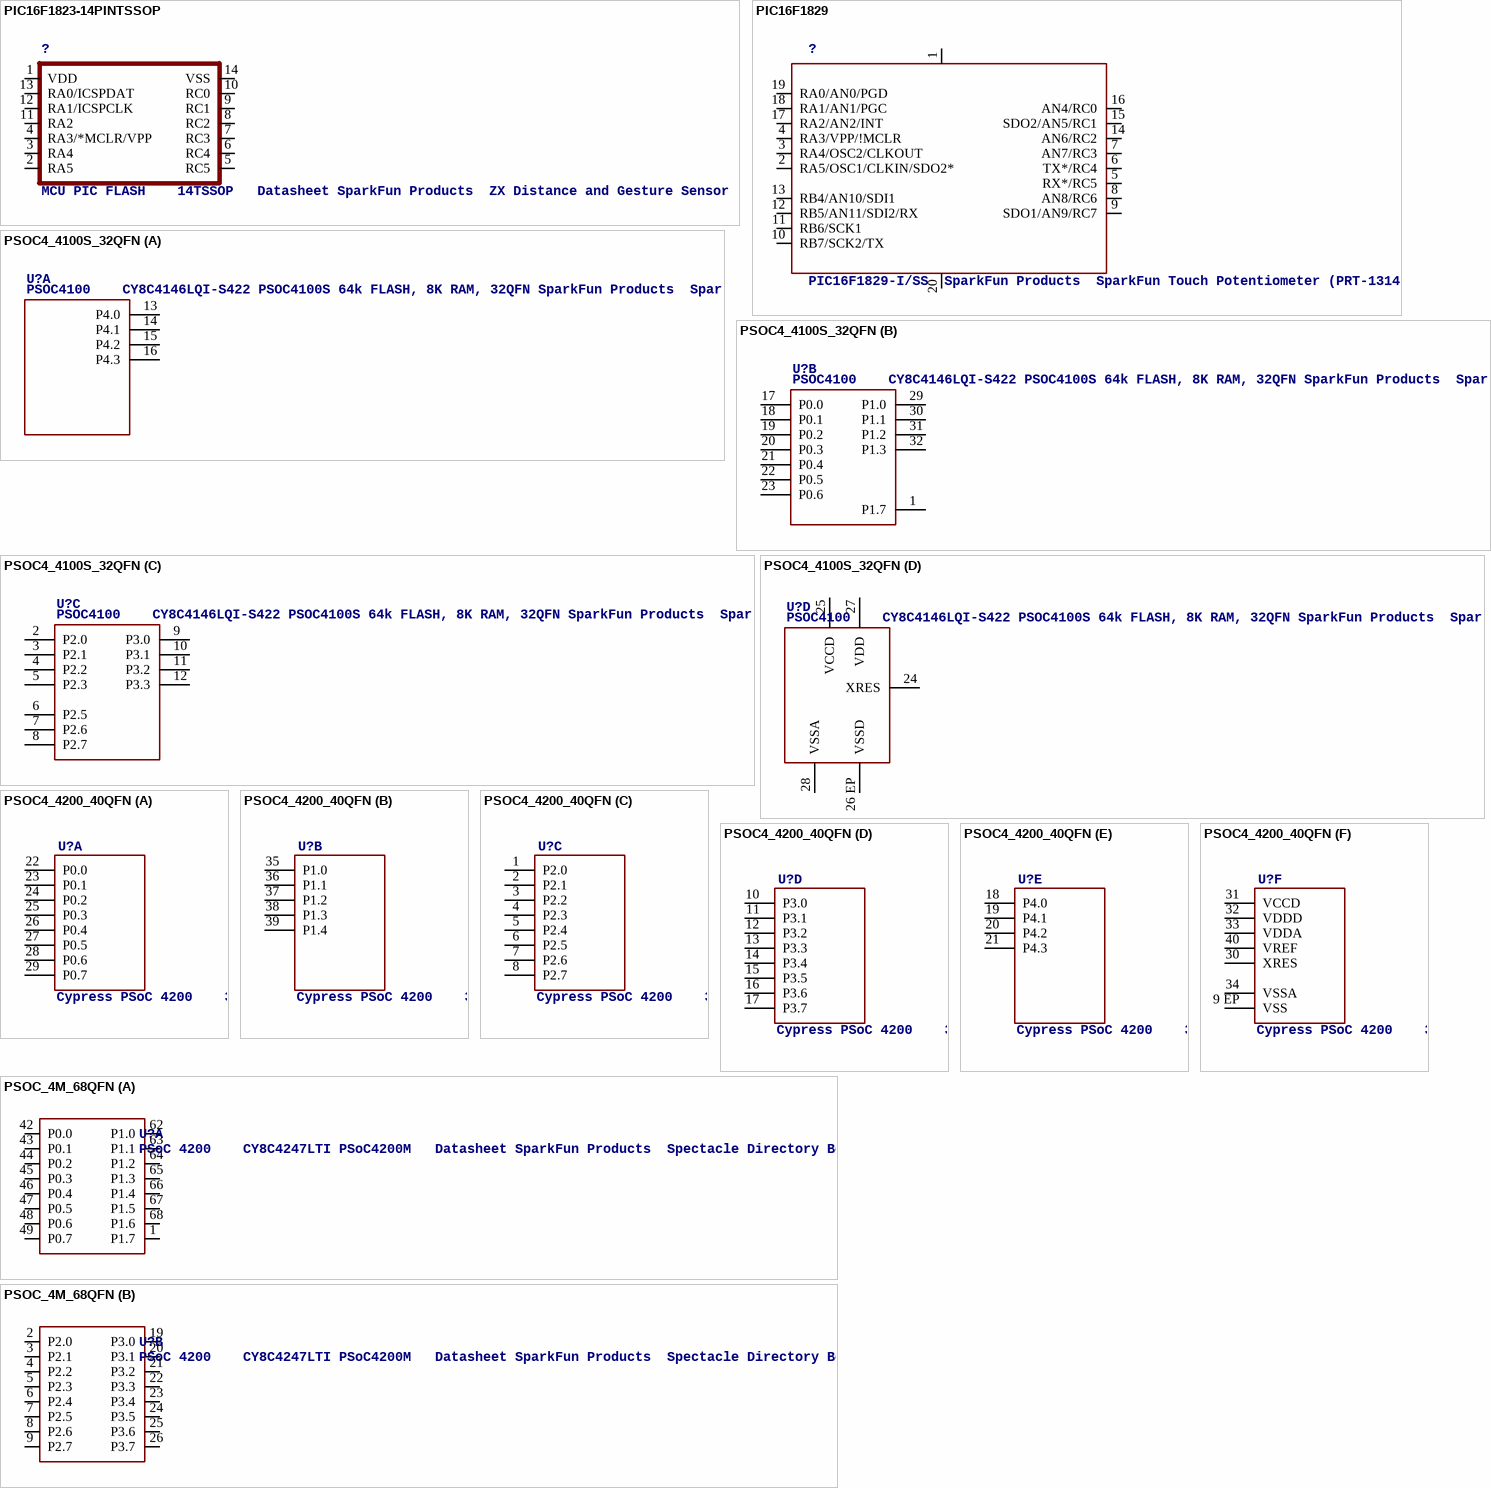
[diagram p5: symbols PIC16F1823-14PINTSSOP to PSOC_4M_68QFN]

## PIC16F1823-14PINTSSOP
designator ?, comment MCU PIC FLASH    14TSSOP   Datasheet SparkFun Products  ZX Distance and Gesture Sensor (SEN-12780)    Short timer
PROD_ID: IC-11992
footprint TSSOP14
pins: 1 VDD (power), 2 RA5, 3 RA4, 4 RA3/*MCLR/VPP, 5 RC5, 6 RC4, 7 RC3, 8 RC2, 9 RC1, 10 RC0, 11 RA2, 12 RA1/ICSPCLK, 13 RA0/ICSPDAT, 14 VSS (power)

## PIC16F1829
designator ?, comment PIC16F1829-I/SS  SparkFun Products  SparkFun Touch Potentiometer (PRT-13144)
PROD_ID: IC-12357
footprint SSOP20
pins: 1 VDD (power), 2 RA5/OSC1/CLKIN/SDO2*, 3 RA4/OSC2/CLKOUT, 4 RA3/VPP/!MCLR, 5 RX*/RC5, 6 TX*/RC4, 7 AN7/RC3, 8 AN8/RC6, 9 SDO1/AN9/RC7, 10 RB7/SCK2/TX, 11 RB6/SCK1, 12 RB5/AN11/SDI2/RX, 13 RB4/AN10/SDI1, 14 AN6/RC2, 15 SDO2/AN5/RC1, 16 AN4/RC0, 17 RA2/AN2/INT, 18 RA1/AN1/PGC, 19 RA0/AN0/PGD, 20 VSS (power)

## PSOC4_4100S_32QFN
designator U?, comment PSOC4100    CY8C4146LQI-S422 PSOC4100S 64k FLASH, 8K RAM, 32QFN SparkFun Products  SparkFun Serial Controlled Motor Driver
PROD_ID: IC-13286
footprint QFN-32
part A pins: 13 P4.0, 14 P4.1, 15 P4.2, 16 P4.3
part B pins: 1 P1.7, 17 P0.0, 18 P0.1, 19 P0.2, 20 P0.3, 21 P0.4, 22 P0.5, 23 P0.6, 29 P1.0, 30 P1.1, 31 P1.2, 32 P1.3
part C pins: 2 P2.0, 3 P2.1, 4 P2.2, 5 P2.3, 6 P2.5, 7 P2.6, 8 P2.7, 9 P3.0, 10 P3.1, 11 P3.2, 12 P3.3
part D pins: 24 XRES, 25 VCCD, 26 EP VSSD, 27 VDD, 28 VSSA

## PSOC4_4200_40QFN
designator U?, comment Cypress PSoC 4200    32-bit MCU  48-MHz ARM Cortex-M0  Datasheet    SparkFun Products: SparkFun serial Controlled Motor Driver
PROD_ID: IC-13292
footprint QFN-40
part A pins: 22 P0.0, 23 P0.1, 24 P0.2, 25 P0.3, 26 P0.4, 27 P0.5, 28 P0.6, 29 P0.7
part B pins: 35 P1.0, 36 P1.1, 37 P1.2, 38 P1.3, 39 P1.4
part C pins: 1 P2.0, 2 P2.1, 3 P2.2, 4 P2.3, 5 P2.4, 6 P2.5, 7 P2.6, 8 P2.7
part D pins: 10 P3.0, 11 P3.1, 12 P3.2, 13 P3.3, 14 P3.4, 15 P3.5, 16 P3.6, 17 P3.7
part E pins: 18 P4.0, 19 P4.1, 20 P4.2, 21 P4.3
part F pins: 9 EP VSS, 30 XRES, 31 VCCD, 32 VDDD, 33 VDDA, 34 VSSA, 40 VREF

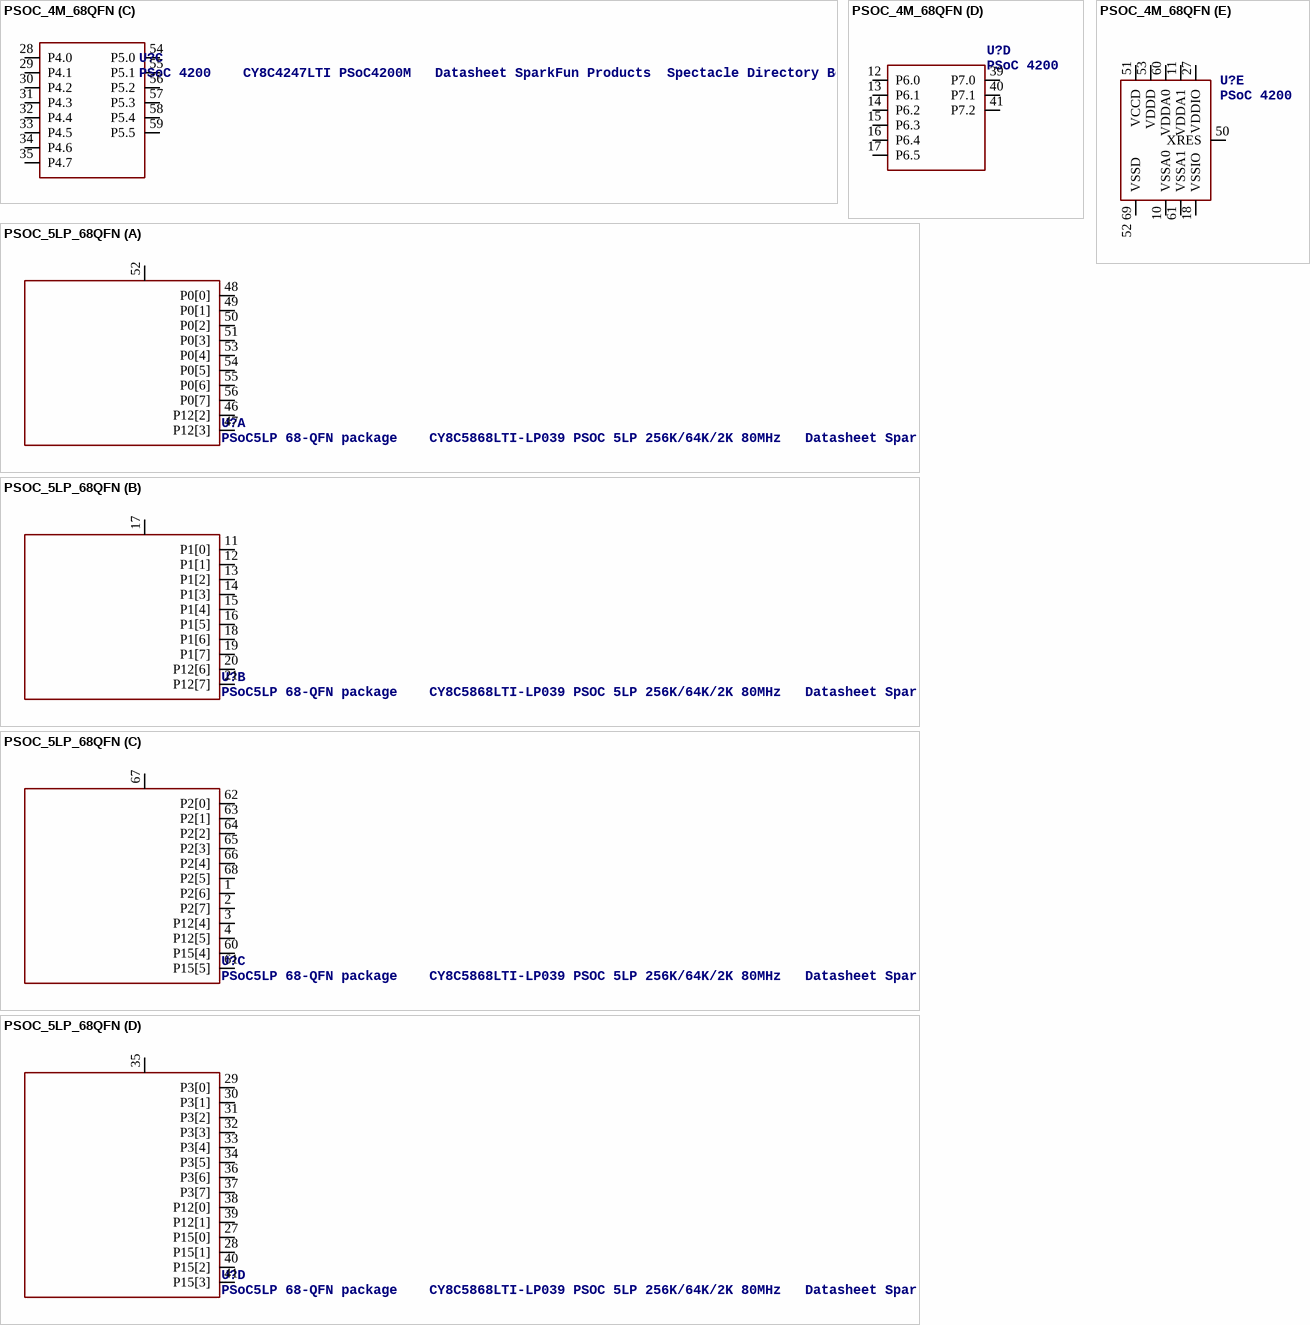
[diagram p6: symbols PSOC_4M_68QFN to PSOC_5LP_68QFN]

## PSOC_4M_68QFN
designator U?, comment PSoC 4200    CY8C4247LTI PSoC4200M   Datasheet SparkFun Products  Spectacle Directory Board ()  ProSoC Mini ()    Prototype in process!  Do keep!
PROD_ID: IC-13259
footprint QFN-68
part A pins: 1 P1.7, 42 P0.0, 43 P0.1, 44 P0.2, 45 P0.3, 46 P0.4, 47 P0.5, 48 P0.6, 49 P0.7, 62 P1.0, 63 P1.1, 64 P1.2, 65 P1.3, 66 P1.4, 67 P1.5, 68 P1.6
part B pins: 2 P2.0, 3 P2.1, 4 P2.2, 5 P2.3, 6 P2.4, 7 P2.5, 8 P2.6, 9 P2.7, 19 P3.0, 20 P3.1, 21 P3.2, 22 P3.3, 23 P3.4, 24 P3.5, 25 P3.6, 26 P3.7
part C pins: 28 P4.0, 29 P4.1, 30 P4.2, 31 P4.3, 32 P4.4, 33 P4.5, 34 P4.6, 35 P4.7, 54 P5.0, 55 P5.1, 56 P5.2, 57 P5.3, 58 P5.4, 59 P5.5
part D pins: 12 P6.0, 13 P6.1, 14 P6.2, 15 P6.3, 16 P6.4, 17 P6.5, 39 P7.0, 40 P7.1, 41 P7.2
part E pins: 10 VSSA0, 11 VDDA1, 18 VSSIO, 27 VDDIO, 50 XRES, 51 VCCD, 52 69 VSSD, 53 VDDD, 60 VDDA0, 61 VSSA1

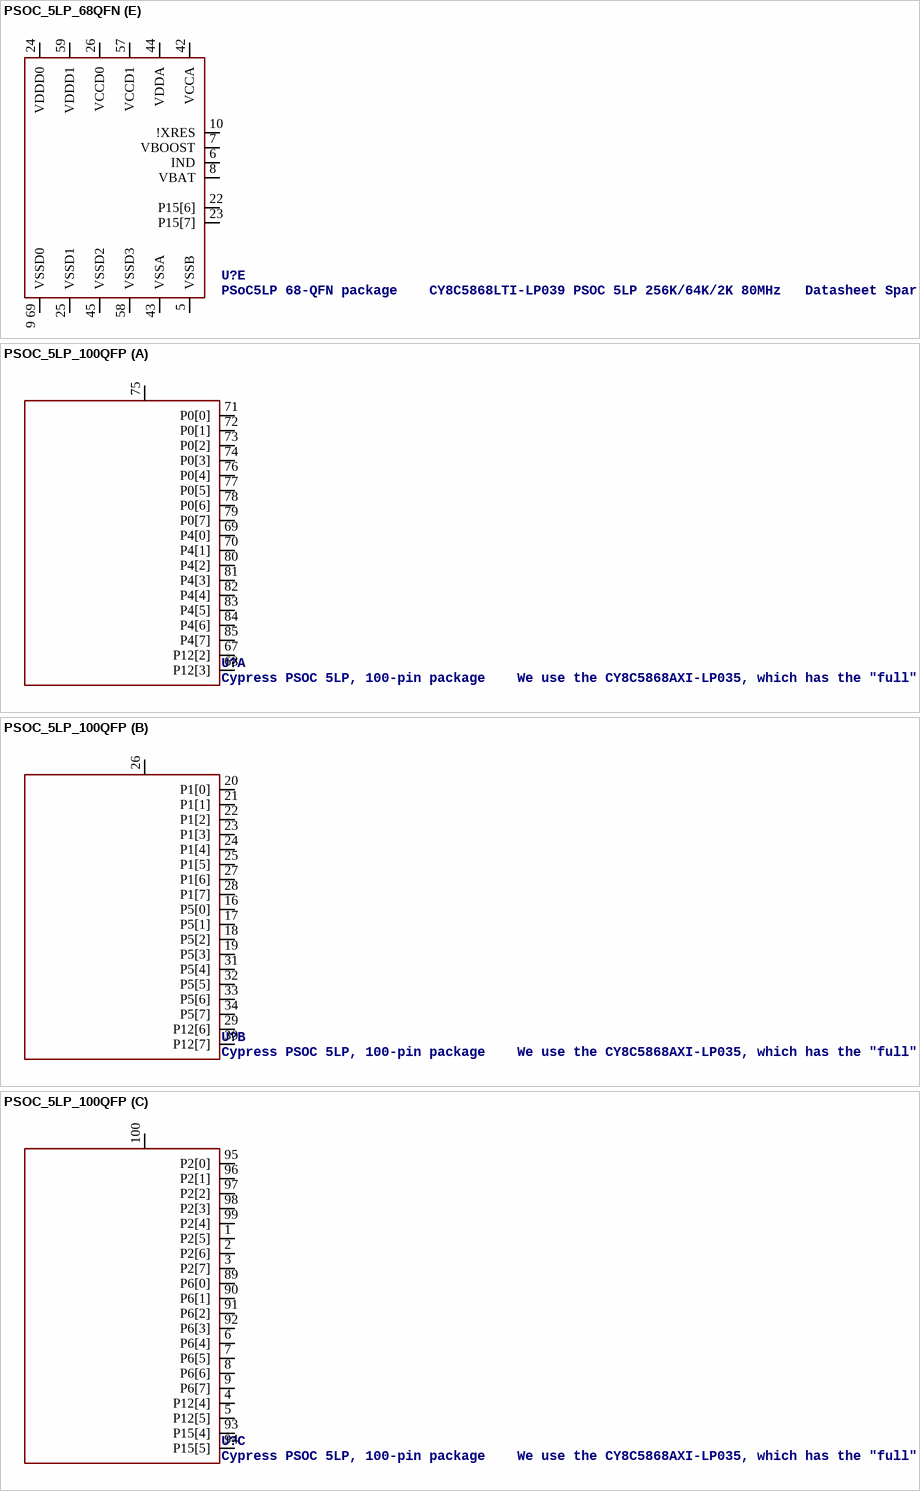
[diagram p7: symbols PSOC_5LP_68QFN to PSOC_5LP_100QFP]

## PSOC_5LP_68QFN
designator U?, comment PSoC5LP 68-QFN package    CY8C5868LTI-LP039 PSOC 5LP 256K/64K/2K 80MHz   Datasheet SparkFun Products  FreeSoC2 Development Board - PSoC5LP (DEV-13229) -- Involved with change to new unposted revision
PROD_ID: IC-12391
footprint QFN-68
part A pins: 46 P12[2], 47 P12[3], 48 P0[0], 49 P0[1], 50 P0[2], 51 P0[3], 52 VDDIO0, 53 P0[4], 54 P0[5], 55 P0[6], 56 P0[7]
part B pins: 11 P1[0], 12 P1[1], 13 P1[2], 14 P1[3], 15 P1[4], 16 P1[5], 17 VDDIO1, 18 P1[6], 19 P1[7], 20 P12[6], 21 P12[7]
part C pins: 1 P2[6], 2 P2[7], 3 P12[4], 4 P12[5], 60 P15[4], 61 P15[5], 62 P2[0], 63 P2[1], 64 P2[2], 65 P2[3], 66 P2[4], 67 VDDIO2, 68 P2[5]
part D pins: 27 P15[0], 28 P15[1], 29 P3[0], 30 P3[1], 31 P3[2], 32 P3[3], 33 P3[4], 34 P3[5], 35 VDDIO3, 36 P3[6], 37 P3[7], 38 P12[0], 39 P12[1], 40 P15[2], 41 P15[3]
part E pins: 5 VSSB, 6 IND, 7 VBOOST, 8 VBAT, 9 69 VSSD0, 10 !XRES, 22 P15[6], 23 P15[7], 24 VDDD0, 25 VSSD1, 26 VCCD0, 42 VCCA, 43 VSSA, 44 VDDA, 45 VSSD2, 57 VCCD1, 58 VSSD3, 59 VDDD1

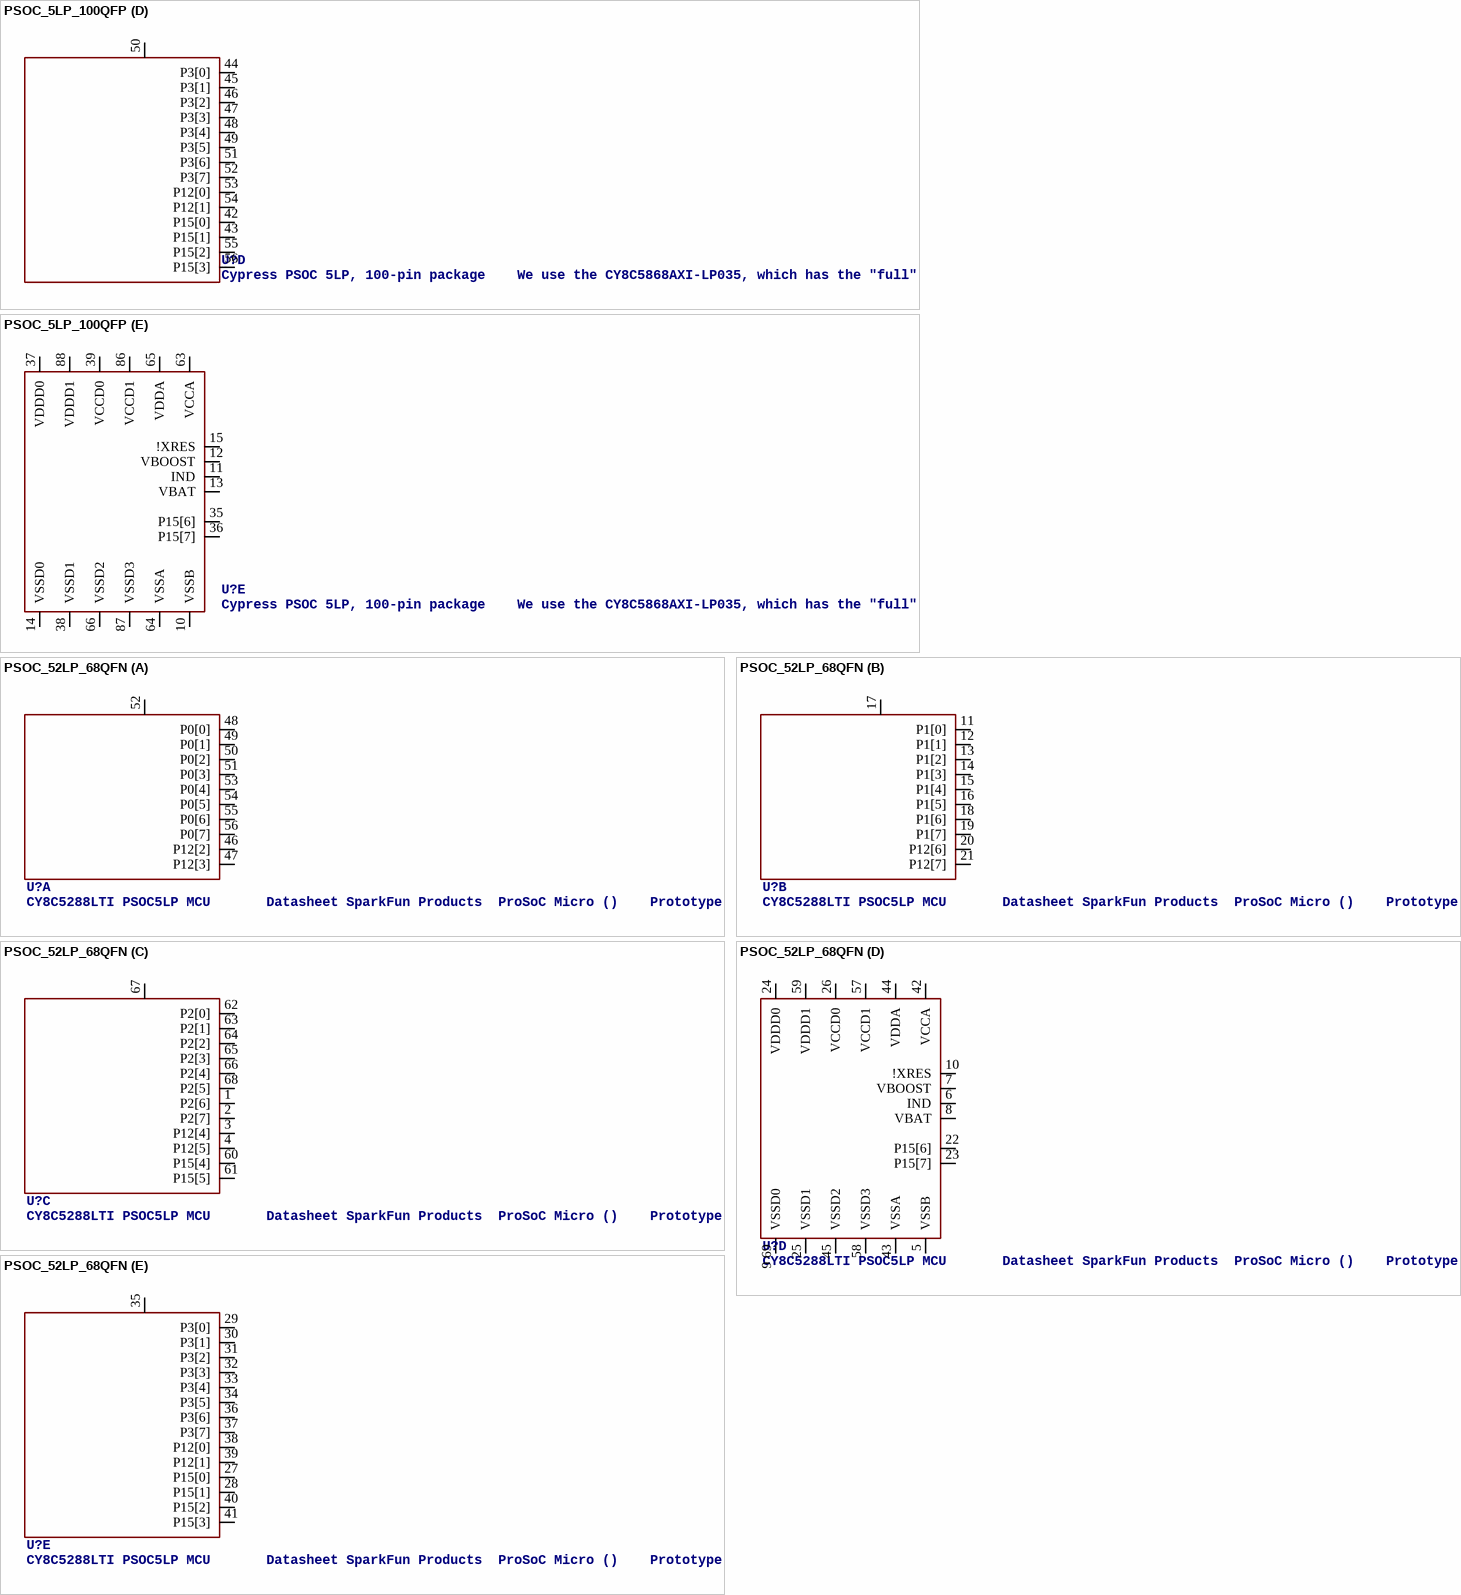
[diagram p8: symbols PSOC_5LP_100QFP to PSOC_52LP_68QFN]

## PSOC_5LP_100QFP
designator U?, comment Cypress PSOC 5LP, 100-pin package    We use the CY8C5868AXI-LP035, which has the "full" feature set: - 256k flash - 64k SRAM - 2k EEPROM  - CAN - Full-speed USB - 67MHz operation   Datasheet SparkFun Products  FreeSoC2 Development Board - PSoC5LP (DEV-13229) -- Involved with change to new unposted revision
PROD_ID: IC-12190
footprint TQFP-100-14X14MM
part A pins: 67 P12[2], 68 P12[3], 69 P4[0], 70 P4[1], 71 P0[0], 72 P0[1], 73 P0[2], 74 P0[3], 75 VDDIO0, 76 P0[4], 77 P0[5], 78 P0[6], 79 P0[7], 80 P4[2], 81 P4[3], 82 P4[4], 83 P4[5], 84 P4[6], 85 P4[7]
part B pins: 16 P5[0], 17 P5[1], 18 P5[2], 19 P5[3], 20 P1[0], 21 P1[1], 22 P1[2], 23 P1[3], 24 P1[4], 25 P1[5], 26 VDDIO1, 27 P1[6], 28 P1[7], 29 P12[6], 30 P12[7], 31 P5[4], 32 P5[5], 33 P5[6], 34 P5[7]
part C pins: 1 P2[5], 2 P2[6], 3 P2[7], 4 P12[4], 5 P12[5], 6 P6[4], 7 P6[5], 8 P6[6], 9 P6[7], 89 P6[0], 90 P6[1], 91 P6[2], 92 P6[3], 93 P15[4], 94 P15[5], 95 P2[0], 96 P2[1], 97 P2[2], 98 P2[3], 99 P2[4], 100 VDDIO2
part D pins: 42 P15[0], 43 P15[1], 44 P3[0], 45 P3[1], 46 P3[2], 47 P3[3], 48 P3[4], 49 P3[5], 50 VDDIO3, 51 P3[6], 52 P3[7], 53 P12[0], 54 P12[1], 55 P15[2], 56 P15[3]
part E pins: 10 VSSB, 11 IND, 12 VBOOST, 13 VBAT, 14 VSSD0, 15 !XRES, 35 P15[6], 36 P15[7], 37 VDDD0, 38 VSSD1, 39 VCCD0, 63 VCCA, 64 VSSA, 65 VDDA, 66 VSSD2, 86 VCCD1, 87 VSSD3, 88 VDDD1

## PSOC_52LP_68QFN
designator U?, comment CY8C5288LTI PSOC5LP MCU       Datasheet SparkFun Products  ProSoC Micro ()    Prototype in process - do keep!
PROD_ID: IC-13261
footprint QFN-68
part A pins: 46 P12[2], 47 P12[3], 48 P0[0], 49 P0[1], 50 P0[2], 51 P0[3], 52 VDDIO0, 53 P0[4], 54 P0[5], 55 P0[6], 56 P0[7]
part B pins: 11 P1[0], 12 P1[1], 13 P1[2], 14 P1[3], 15 P1[4], 16 P1[5], 17 VDDIO1, 18 P1[6], 19 P1[7], 20 P12[6], 21 P12[7]
part C pins: 1 P2[6], 2 P2[7], 3 P12[4], 4 P12[5], 60 P15[4], 61 P15[5], 62 P2[0], 63 P2[1], 64 P2[2], 65 P2[3], 66 P2[4], 67 VDDIO2, 68 P2[5]
part D pins: 5 VSSB, 6 IND, 7 VBOOST, 8 VBAT, 9 69 VSSD0, 10 !XRES, 22 P15[6], 23 P15[7], 24 VDDD0, 25 VSSD1, 26 VCCD0, 42 VCCA, 43 VSSA, 44 VDDA, 45 VSSD2, 57 VCCD1, 58 VSSD3, 59 VDDD1
part E pins: 27 P15[0], 28 P15[1], 29 P3[0], 30 P3[1], 31 P3[2], 32 P3[3], 33 P3[4], 34 P3[5], 35 VDDIO3, 36 P3[6], 37 P3[7], 38 P12[0], 39 P12[1], 40 P15[2], 41 P15[3]

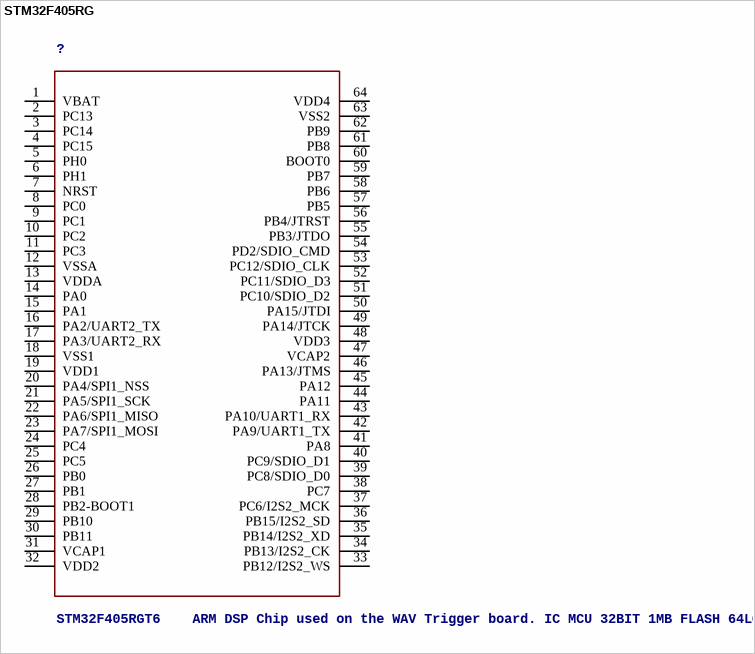
[diagram p9: symbol STM32F405RG]

## STM32F405RG
designator ?, comment STM32F405RGT6    ARM DSP Chip used on the WAV Trigger board. IC MCU 32BIT 1MB FLASH 64LQFP   Datasheet SparkFun Products  WAV Trigger (WIG-13660)
PROD_ID: IC-11709
footprint TQFP64
pins: 1 VBAT, 2 PC13, 3 PC14, 4 PC15, 5 PH0, 6 PH1, 7 NRST, 8 PC0, 9 PC1, 10 PC2, 11 PC3, 12 VSSA, 13 VDDA, 14 PA0, 15 PA1, 16 PA2/UART2_TX, 17 PA3/UART2_RX, 18 VSS1, 19 VDD1, 20 PA4/SPI1_NSS, 21 PA5/SPI1_SCK, 22 PA6/SPI1_MISO, 23 PA7/SPI1_MOSI, 24 PC4, 25 PC5, 26 PB0, 27 PB1, 28 PB2-BOOT1, 29 PB10, 30 PB11, 31 VCAP1, 32 VDD2, 33 PB12/I2S2_WS, 34 PB13/I2S2_CK, 35 PB14/I2S2_XD, 36 PB15/I2S2_SD, 37 PC6/I2S2_MCK, 38 PC7, 39 PC8/SDIO_D0, 40 PC9/SDIO_D1, 41 PA8, 42 PA9/UART1_TX, 43 PA10/UART1_RX, 44 PA11, 45 PA12, 46 PA13/JTMS, 47 VCAP2, 48 VDD3, 49 PA14/JTCK, 50 PA15/JTDI, 51 PC10/SDIO_D2, 52 PC11/SDIO_D3, 53 PC12/SDIO_CLK, 54 PD2/SDIO_CMD, 55 PB3/JTDO, 56 PB4/JTRST, 57 PB5, 58 PB6, 59 PB7, 60 BOOT0, 61 PB8, 62 PB9, 63 VSS2, 64 VDD4